# Altium schematic symbol library Intelliclone.SchLib: 488 symbols (part 5 of 6)
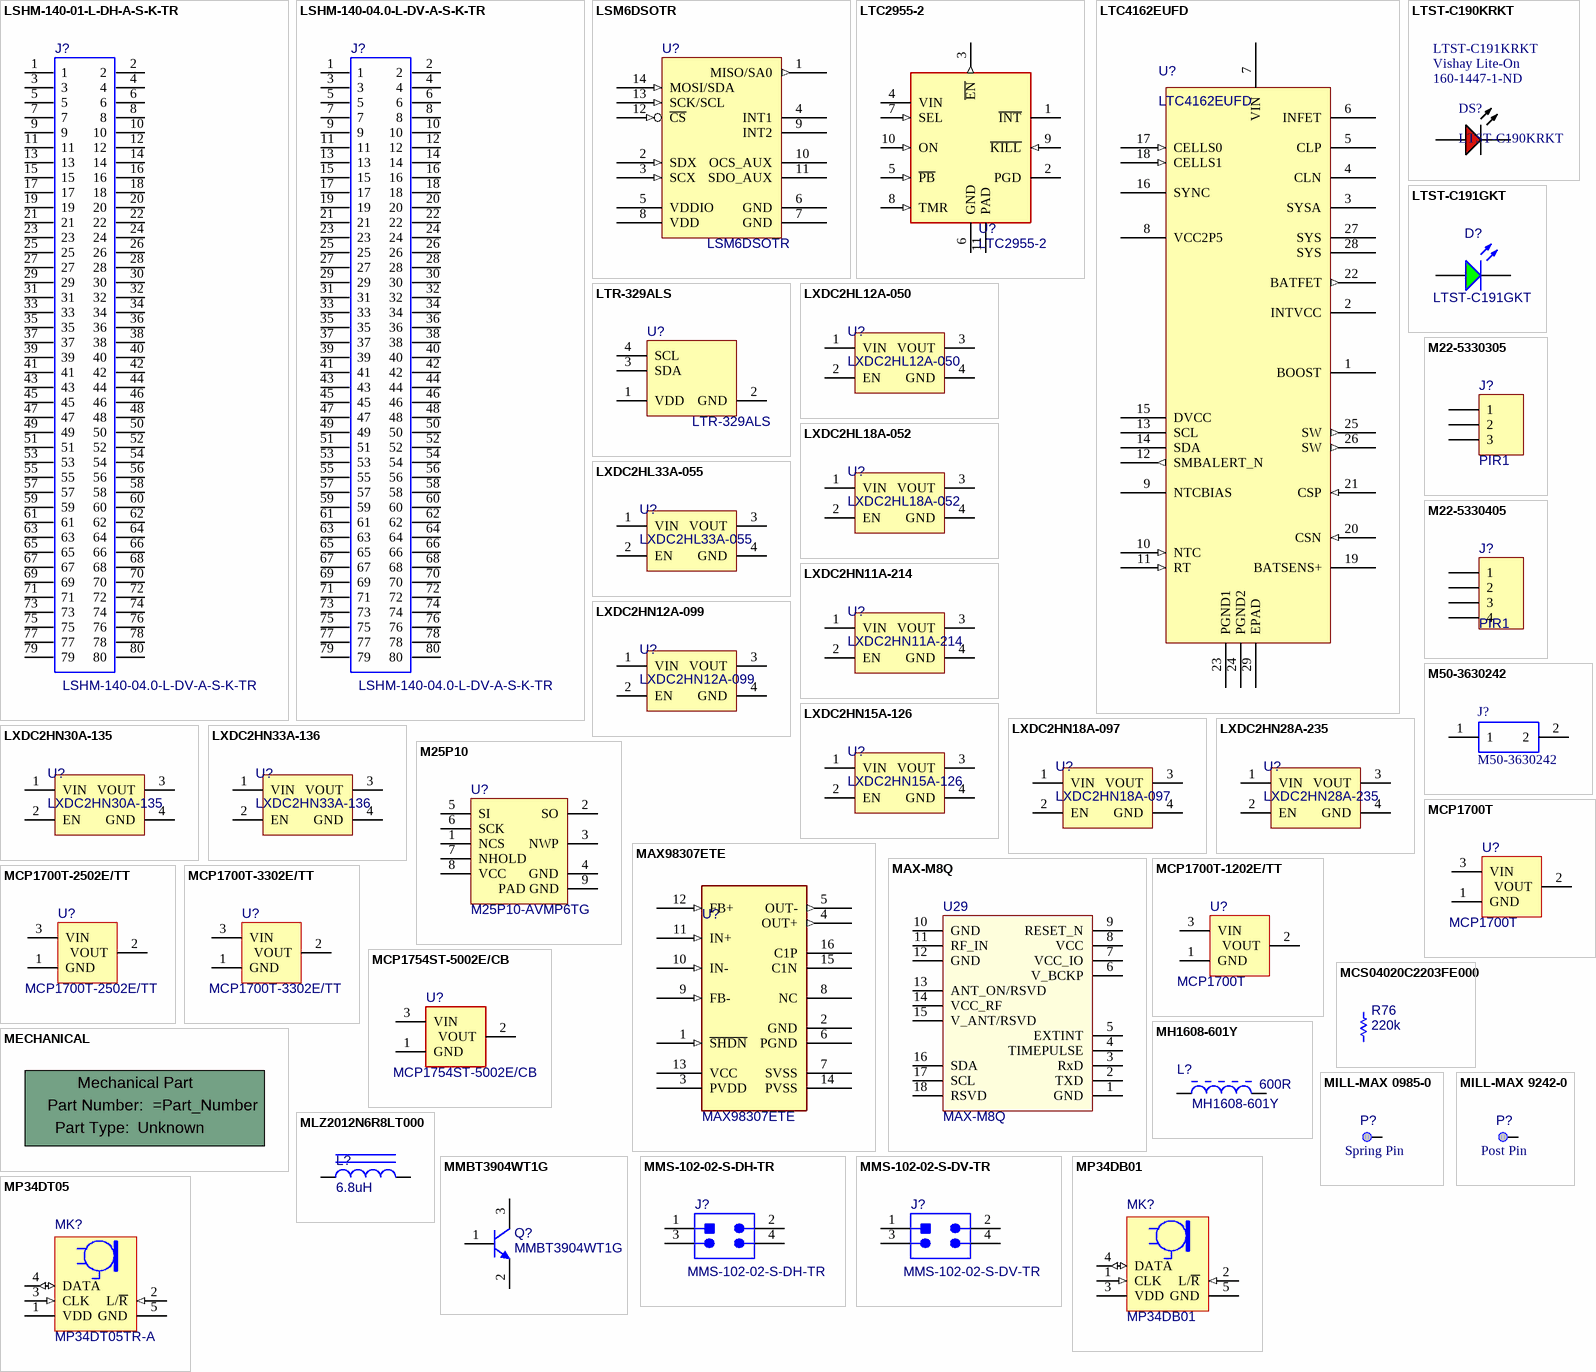
[diagram p25: symbols LSHM-140-01-L-DH-A-S-K-TR to MP34DT05]

## MMBT3904WT1G
designator Q?
TRANS NPN 40V 0.2A SOT323; Manufacturer 1: ON Semiconductor / Fairchild; CMT Part Number: 100184; Max Collector Current: 200mA; ComponentLink3URL: http://www.fairchildsemi.com/dwg/MA/MA03D.pdf; ComponentLink1URL: https://www.fairchildsemi.com/; ComponentLink1Description: Manufacturer URL; ComponentLink2URL: https://www.fairchildsemi.com/datasheets/MM/MMBT3904.pdf; ComponentLink3Description: Package Specification; ComponentLink2Description: Datasheet; Case/Package: SOT-23; Manufacturer Part Number 1: MMBT3904WT1G; Max Breakdown Voltage: 40V; Supplier 1: Digi-Key; Supplier Part Number 1: MMBT3904WT1GOSTR-ND; Supplier 2: Mouser; Supplier Part Number 2: 863-MMBT3904WT1G; Value: MMBT3904WT1G
footprint FAIR-SOT23-3_V (SOT23, 3-Leads, Body 3.12x1.5mm, Pitch 0.95mm)
footprint SOT-323FL (SOT23, 3-Leads, Body 2.00x2.10mm, Pitch 0.65mm, IPC Medium Density)
pins: 1 B, 2 E, 3 C

## MMS-102-02-S-DH-TR
designator J?
CONN HEADER 4POS DL UNSHRD SMD; Manufacturer 1: Samtec; Manufacturer Part Number 1: MMS-102-02-S-DH-TR; Value: MMS-102-02-S-DH-TR; Part Type: Connector; Supplier 1: Octopart; Supplier Part Number 1: Avnet - MMS-102-02-S-DH
footprint HDR2X5 (Connector; Header; 5x2 Position)
signal-integrity model Connector
footprint MMS-115-02-XXX-DH
pins: 1, 2, 3, 4

## MMS-102-02-S-DV-TR
designator J?
CONN HEADER 4POS DL UNSHRD SMD; Manufacturer 1: Samtec; Manufacturer Part Number 1: MMS-102-02-S-DV-TR; Value: MMS-102-02-S-DV-TR; Part Type: Connector
footprint HDR2X5 (Connector; Header; 5x2 Position)
signal-integrity model Connector
footprint MMS-102-02-X-DV (Samtec MMS-102-02-X-DV)
pins: 1, 2, 3, 4

## MP34DB01
designator MK?
MIC SISONIC MINI TOP RF; Manufacturer 1: ST Microelectronics; Part Type: Microphone; Manufacturer Part Number 1: MP34DB01; Supplier 1: Digi-Key; Supplier Part Number 1: 497-11241-1-ND; Value: MP34DB01
footprint MP34DB01 (DFN, 4-Leads, Body 4.00x3.00mm, Pitch 0.70mm, IPC Medium Density)
pins: 1 CLK (in), 2 L/~{R} (in), 3 VDD (power), 4 DATA (io), 5 GND (power)

## MP34DT05
designator MK?, comment MP34DT05TR-A
MIC SISONIC MINI TOP RF; Manufacturer 1: ST Microelectronics; CMT Part Number: 100254; Part Type: Microphone; Manufacturer Part Number 1: MP34DT05TR-A; Supplier 1: Digi-Key; Supplier Part Number 1: 497-17809-1-ND; Supplier 2: Mouser; Supplier Part Number 2: 511-MP34DT05TR-A; Value: MP34DT05TR-A
footprint MP34T05A
pins: 1 VDD (power), 2 L/~{R} (in), 3 CLK (in), 4 DATA (io), 5 GND (power)

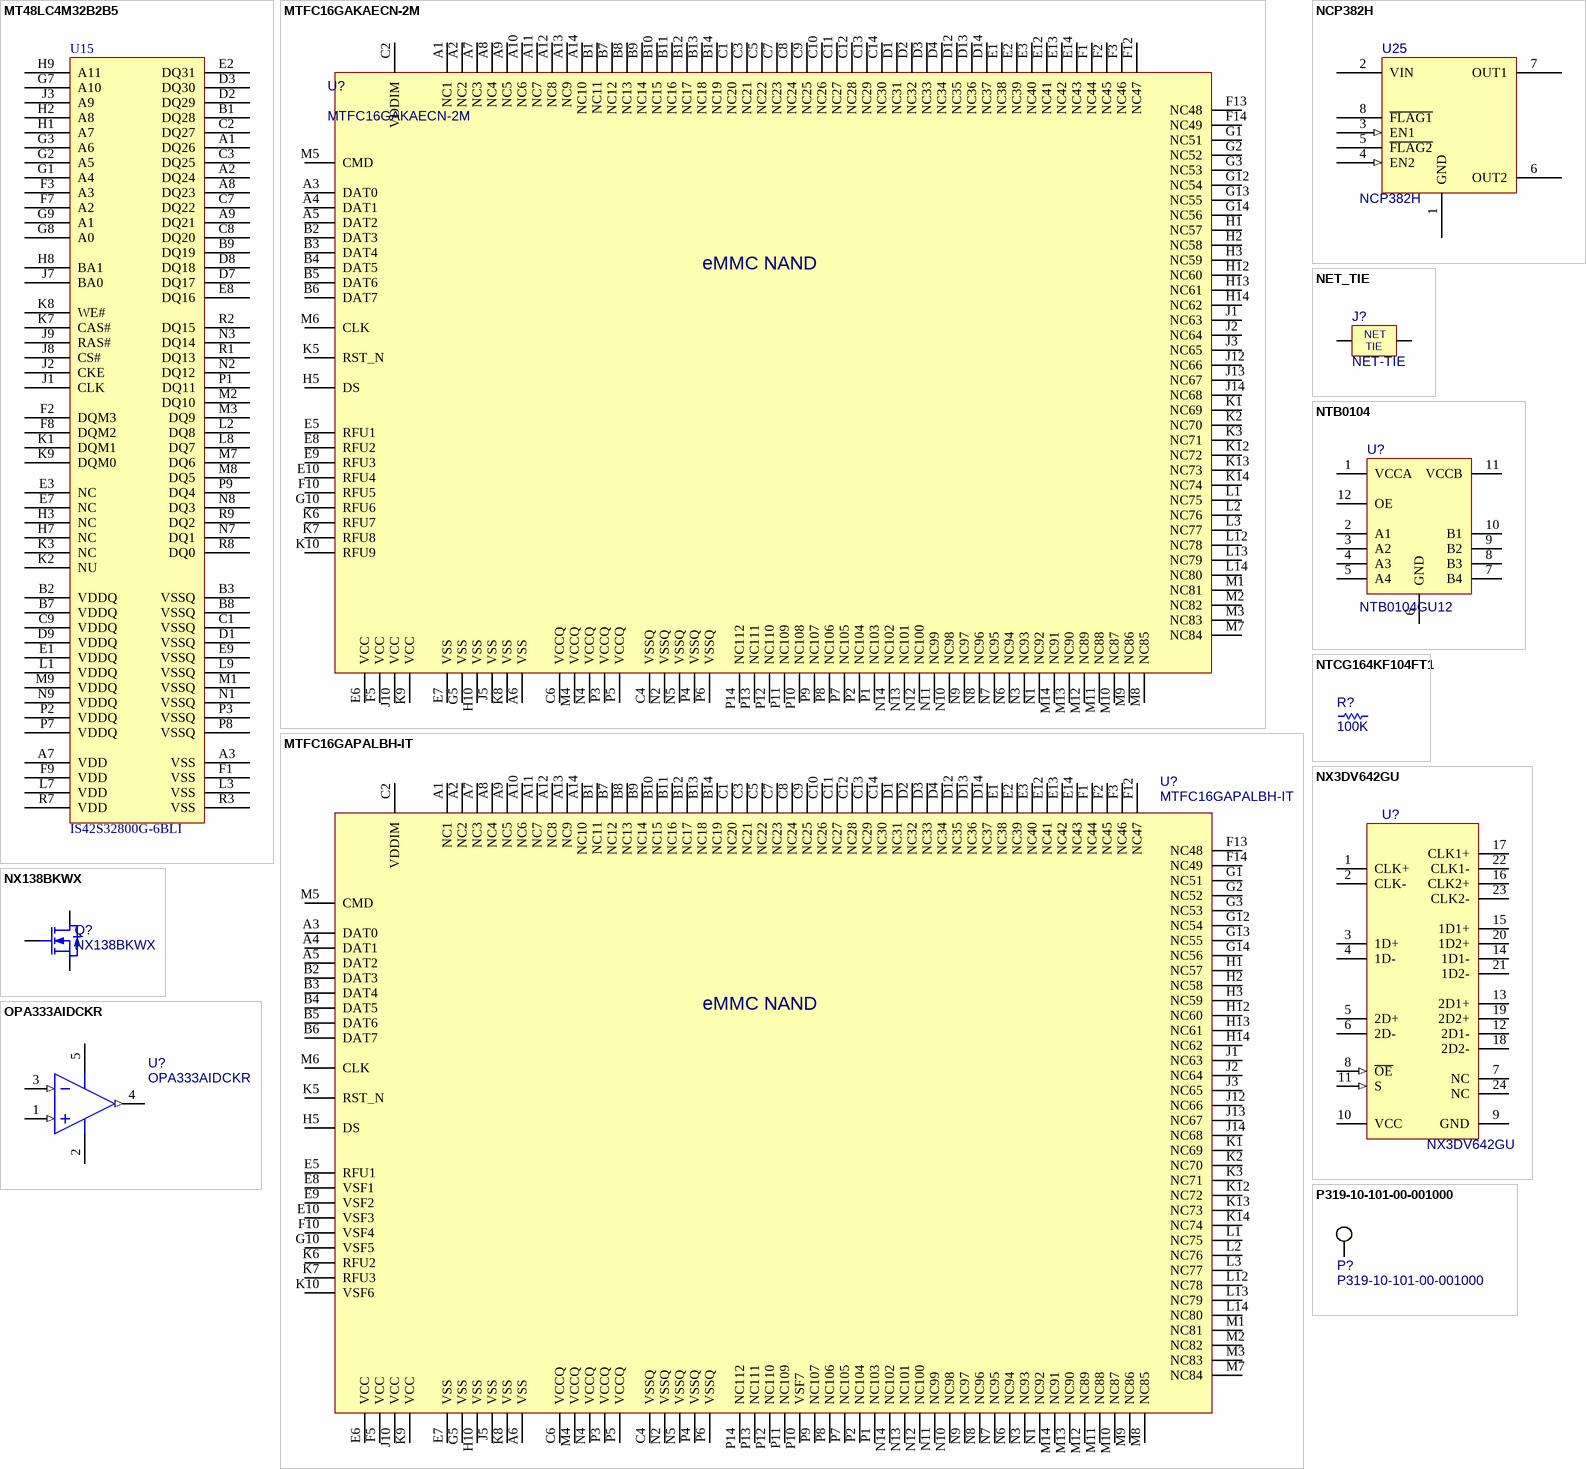
[diagram p13: symbols MT48LC4M32B2B5 to P319-10-101-00-001000]

## MT48LC4M32B2B5
designator U15, comment IS42S32800G-6BLI
IC DRAM 256M PARALLEL 90TFBGA
footprint FBGA90_0R8_8X13 (Footprint not found)
pins: A1 DQ26, A2 DQ24, A3 VSS, A7 VDD, A8 DQ23, A9 DQ21, B1 DQ28, B2 VDDQ, B3 VSSQ, B7 VDDQ, B8 VSSQ, B9 DQ19, C1 VSSQ, C2 DQ27, C3 DQ25, C7 DQ22, C8 DQ20, C9 VDDQ, D1 VSSQ, D2 DQ29, D3 DQ30, D7 DQ17, D8 DQ18, D9 VDDQ, E1 VDDQ, E2 DQ31, E3 NC, E7 NC, E8 DQ16, E9 VSSQ, F1 VSS, F2 DQM3, F3 A3, F7 A2, F8 DQM2, F9 VDD, G1 A4, G2 A5, G3 A6, G7 A10, G8 A0, G9 A1, H1 A7, H2 A8, H3 NC, H7 NC, H8 BA1, H9 A11, J1 CLK, J2 CKE, J3 A9, J7 BA0, J8 CS#, J9 RAS#, K1 DQM1, K2 NU, K3 NC, K7 CAS#, K8 WE#, K9 DQM0, L1 VDDQ, L2 DQ8, L3 VSS, L7 VDD, L8 DQ7, L9 VSSQ, M1 VSSQ, M2 DQ10, M3 DQ9, M7 DQ6, M8 DQ5, M9 VDDQ, N1 VSSQ, N2 DQ12, N3 DQ14, N7 DQ1, N8 DQ3, N9 VDDQ, P1 DQ11, P2 VDDQ, P3 VSSQ, P7 VDDQ, P8 VSSQ, P9 DQ4, R1 DQ13, R2 DQ15, R3 VSS, R7 VDD, R8 DQ0, R9 DQ2

## MTFC16GAKAECN-2M
designator U?
IC FLASH 128GBIT 153FBGA; Manufacturer 1: Micron; Manufacturer Part Number 1: MTFC16GAKAECN-2M WT; CMT Part Number: 100208; Value: MTFC16GAKAECN-2M; Supplier 1: Arrow; Supplier Part Number 1: MTFC16GAKAECN-2M WT
footprint BGA153C50P14X14_1150X1300X90 (BGA, 153-Leads, Body 11.50x13.00mmx0.90mm, Pitch 0.50mm)
pins: A1 NC1, A2 NC2, A3 DAT0, A4 DAT1, A5 DAT2, A6 VSS (power), A7 NC3, A8 NC4, A9 NC5, A10 NC6, A11 NC7, A12 NC8, A13 NC9, A14 NC10, B1 NC11, B2 DAT3, B3 DAT4, B4 DAT5, B5 DAT6, B6 DAT7, B7 NC12, B8 NC13, B9 NC14, B10 NC15, B11 NC16, B12 NC17, B13 NC18, B14 NC19, C1 NC20, C2 VDDIM, C3 NC21, C4 VSSQ (power), C5 NC22, C6 VCCQ (power), C7 NC23, C8 NC24, C9 NC25, C10 NC26, C11 NC27, C12 NC28, C13 NC29, C14 NC30, D1 NC31, D2 NC32, D3 NC33, D4 NC34, D12 NC35, D13 NC36, D14 NC37, E1 NC38, E2 NC39, E3 NC40, E5 RFU1, E6 VCC (power), E7 VSS (power), E8 RFU2, E9 RFU3, E10 RFU4, E12 NC41, E13 NC42, E14 NC43, F1 NC44, F2 NC45, F3 NC46, F5 VCC (power), F10 RFU5, F12 NC47, F13 NC48, F14 NC49, G1 NC51, G2 NC52, G3 NC53, G5 VSS (power), G10 RFU6, G12 NC54, G13 NC55, G14 NC56, H1 NC57, H2 NC58, H3 NC59, H5 DS, H10 VSS (power), H12 NC60, H13 NC61, H14 NC62, J1 NC63, J2 NC64, J3 NC65, J5 VSS (power), J10 VCC (power), J12 NC66, J13 NC67, J14 NC68, K1 NC69, K2 NC70, K3 NC71, K5 RST_N, K6 RFU7, K7 RFU8, K8 VSS (power), K9 VCC (power), K10 RFU9, K12 NC72, K13 NC73, K14 NC74, L1 NC75, L2 NC76, L3 NC77, L12 NC78, L13 NC79, L14 NC80, M1 NC81, M2 NC82, M3 NC83, M4 VCCQ (power), M5 CMD, M6 CLK, M7 NC84, M8 NC85, M9 NC86, M10 NC87, M11 NC88, M12 NC89, M13 NC90, M14 NC91, N1 NC92, N2 VSSQ (power), N3 NC93, N4 VCCQ (power), N5 VSSQ (power), N6 NC94, N7 NC95, N8 NC96, N9 NC97, N10 NC98, N11 NC99, N12 NC100, N13 NC101, N14 NC102, P1 NC103, P2 NC104, P3 VCCQ (power), P4 VSSQ (power), P5 VCCQ (power), P6 VSSQ (power), P7 NC105, P8 NC106, P9 NC107, P10 NC108, P11 NC109, P12 NC110, P13 NC111, P14 NC112
text: eMMC NAND

## MTFC16GAPALBH-IT
designator U?
IC FLASH 128GBIT 153FBGA; Manufacturer 1: Micron; CMT Part Number: 100208; Manufacturer Part Number 1: MTFC16GAPALBH-IT; Value: MTFC16GAPALBH-IT; Supplier 1: Avnet; Supplier Part Number 1: MTFC16GAPALBH-IT
footprint BGA153C50P14X14_1150X1300X90 (BGA, 153-Leads, Body 11.50x13.00mmx0.90mm, Pitch 0.50mm)
pins: A1 NC1, A2 NC2, A3 DAT0, A4 DAT1, A5 DAT2, A6 VSS (power), A7 NC3, A8 NC4, A9 NC5, A10 NC6, A11 NC7, A12 NC8, A13 NC9, A14 NC10, B1 NC11, B2 DAT3, B3 DAT4, B4 DAT5, B5 DAT6, B6 DAT7, B7 NC12, B8 NC13, B9 NC14, B10 NC15, B11 NC16, B12 NC17, B13 NC18, B14 NC19, C1 NC20, C2 VDDIM, C3 NC21, C4 VSSQ (power), C5 NC22, C6 VCCQ (power), C7 NC23, C8 NC24, C9 NC25, C10 NC26, C11 NC27, C12 NC28, C13 NC29, C14 NC30, D1 NC31, D2 NC32, D3 NC33, D4 NC34, D12 NC35, D13 NC36, D14 NC37, E1 NC38, E2 NC39, E3 NC40, E5 RFU1, E6 VCC (power), E7 VSS (power), E8 VSF1, E9 VSF2, E10 VSF3, E12 NC41, E13 NC42, E14 NC43, F1 NC44, F2 NC45, F3 NC46, F5 VCC (power), F10 VSF4, F12 NC47, F13 NC48, F14 NC49, G1 NC51, G2 NC52, G3 NC53, G5 VSS (power), G10 VSF5, G12 NC54, G13 NC55, G14 NC56, H1 NC57, H2 NC58, H3 NC59, H5 DS, H10 VSS (power), H12 NC60, H13 NC61, H14 NC62, J1 NC63, J2 NC64, J3 NC65, J5 VSS (power), J10 VCC (power), J12 NC66, J13 NC67, J14 NC68, K1 NC69, K2 NC70, K3 NC71, K5 RST_N, K6 RFU2, K7 RFU3, K8 VSS (power), K9 VCC (power), K10 VSF6, K12 NC72, K13 NC73, K14 NC74, L1 NC75, L2 NC76, L3 NC77, L12 NC78, L13 NC79, L14 NC80, M1 NC81, M2 NC82, M3 NC83, M4 VCCQ (power), M5 CMD, M6 CLK, M7 NC84, M8 NC85, M9 NC86, M10 NC87, M11 NC88, M12 NC89, M13 NC90, M14 NC91, N1 NC92, N2 VSSQ (power), N3 NC93, N4 VCCQ (power), N5 VSSQ (power), N6 NC94, N7 NC95, N8 NC96, N9 NC97, N10 NC98, N11 NC99, N12 NC100, N13 NC101, N14 NC102, P1 NC103, P2 NC104, P3 VCCQ (power), P4 VSSQ (power), P5 VCCQ (power), P6 VSSQ (power), P7 NC105, P8 NC106, P9 NC107, P10 VSF7, P11 NC109, P12 NC110, P13 NC111, P14 NC112
text: eMMC NAND

## NCP382H
designator U25
IC PWR DISTRIB SWITCH 2CH 8SOIC; Manufacturer 1: ON Semiconductor; Manufacturer Part Number 1: NCP382HD10AAR2G; CMT Part Number: 100222; Max Input Voltage: 5.5V; Min Input Voltage: 2.5V; Supplier 1: Digi-Key; Supplier Part Number 1: NCP382HD10AAR2GOSDKR-ND; Value: NCP382H
footprint SOIC127P620X175-8N (SOIC, 8-Leads, Body 5.00x4.00mm, Pitch 1.27mm, IPC Medium Density)
pins: 1 GND (power), 2 VIN (power), 3 EN1 (in), 4 EN2 (in), 5 ~{FLAG2} (oc), 6 OUT2 (power), 7 OUT1 (power), 8 ~{FLAG1} (oc)

## NET_TIE
designator J?, comment NET-TIE  (net tie, no BOM)
NET TIE LARGE; Value: NET-TIE
footprint NET-TIE-0805 (0805 size net tie)
signal-integrity model Connector
pins: 1, 2
text: NET; TIE

## NTB0104
designator U?, comment NTB0104GU12
IC 4-BIT TRNSLTR 15KV ESD 12XQFN; Manufacturer 1: NXP; Manufacturer Part Number 1: NTB0104GU12,115; Value: NTB0104GU12; Supplier 1: Digi-Key; Supplier Part Number 1: 568-5204-1-ND
footprint QFN40P170X200X50-12N (QFN, 12-Leads, Body 1.70x2.00mm, Pitch 0.40mm, IPC Medium Density)
pins: 1 VCCA, 2 A1, 3 A2, 4 A3, 5 A4, 6 GND, 7 B4, 8 B3, 9 B2, 10 B1, 11 VCCB, 12 OE

## NTCG164KF104FT1
designator R?, comment 100K
THERMISTOR NTC 100K OHM 1% 0603; Manufacturer 1: TDK; Manufacturer Part Number 1: NTCG164KF104FT1; Supplier 1: Digi-Key; Supplier Part Number 1: 445-2556-1-ND; Supplier 2: Mouser; Supplier Part Number 2: N/A; Value: 100K
simulation model RESISTOR (Resistor)
signal-integrity model Res
footprint 0603 (Standard 0603 Component Footprint)
pins: 1, 2

## NX3DV642GU
designator U?
IC SWITCH TPDT DIFF XQFN24; Manufacturer 1: NXP; Value: NX3DV642GU; Manufacturer Part Number 1: NX3DV642GU; Supplier 1: Digi-Key; Supplier Part Number 1: 568-12389-1-ND
pins: 1 CLK+, 2 CLK-, 3 1D+, 4 1D-, 5 2D+, 6 2D-, 7 NC, 8 ~{OE} (in), 9 GND (power), 10 VCC (power), 11 S (in), 12 2D1-, 13 2D1+, 14 1D1-, 15 1D1+, 16 CLK2+, 17 CLK1+, 18 2D2-, 19 2D2+, 20 1D2+, 21 1D2-, 22 CLK1-, 23 CLK2-, 24 NC

## NX138BKWX
designator Q?
MOSFET N-CH 20V .27A SC70; Manufacturer 1: Nexperia; Manufacturer Part Number 1: NX138BKWX; Value: NX138BKWX; Supplier 1: Digi-Key; Supplier Part Number 1: 1727-2738-1-ND
footprint SOT65P210X110-3N (SOT23, 3-Leads, Body 2.00x2.10mm, Pitch 0.65mm, IPC Medium Density)
pins: 1 G, 2 S, 3 D

## OPA333AIDCKR
designator U?
IC OPAMP CHOPPER 350KHZ SC70-5; Manufacturer 1: Texas Instruments; Value: OPA333AIDCKR; Manufacturer Part Number 1: OPA333AIDCKR; Supplier 1: Digi-Key; Supplier Part Number 1: 296-19547-1-ND; Supplier 2: Mouser; Supplier Part Number 2: 595-OPA333AIDCKR
footprint TI-DCK5_V (SOT23, 5-Leads, Body 2x1.25mm, Pitch 0.65mm)
pins: 1 IN+ (in), 2 V- (power), 3 IN- (in), 4 OUT (out), 5 V+ (power)

## P319-10-101-00-001000
designator P?
CONN SOCKET 1P .100 SPRING LOADED; Manufacturer 1: Mill-Max; Manufacturer Part Number 1: P319-10-101-00-001000; Supplier 1: Heilind; Supplier Part Number 1: 319-10-101-00-001-000; Value: P319-10-101-00-001000
footprint TP/SMALL
pins: 1

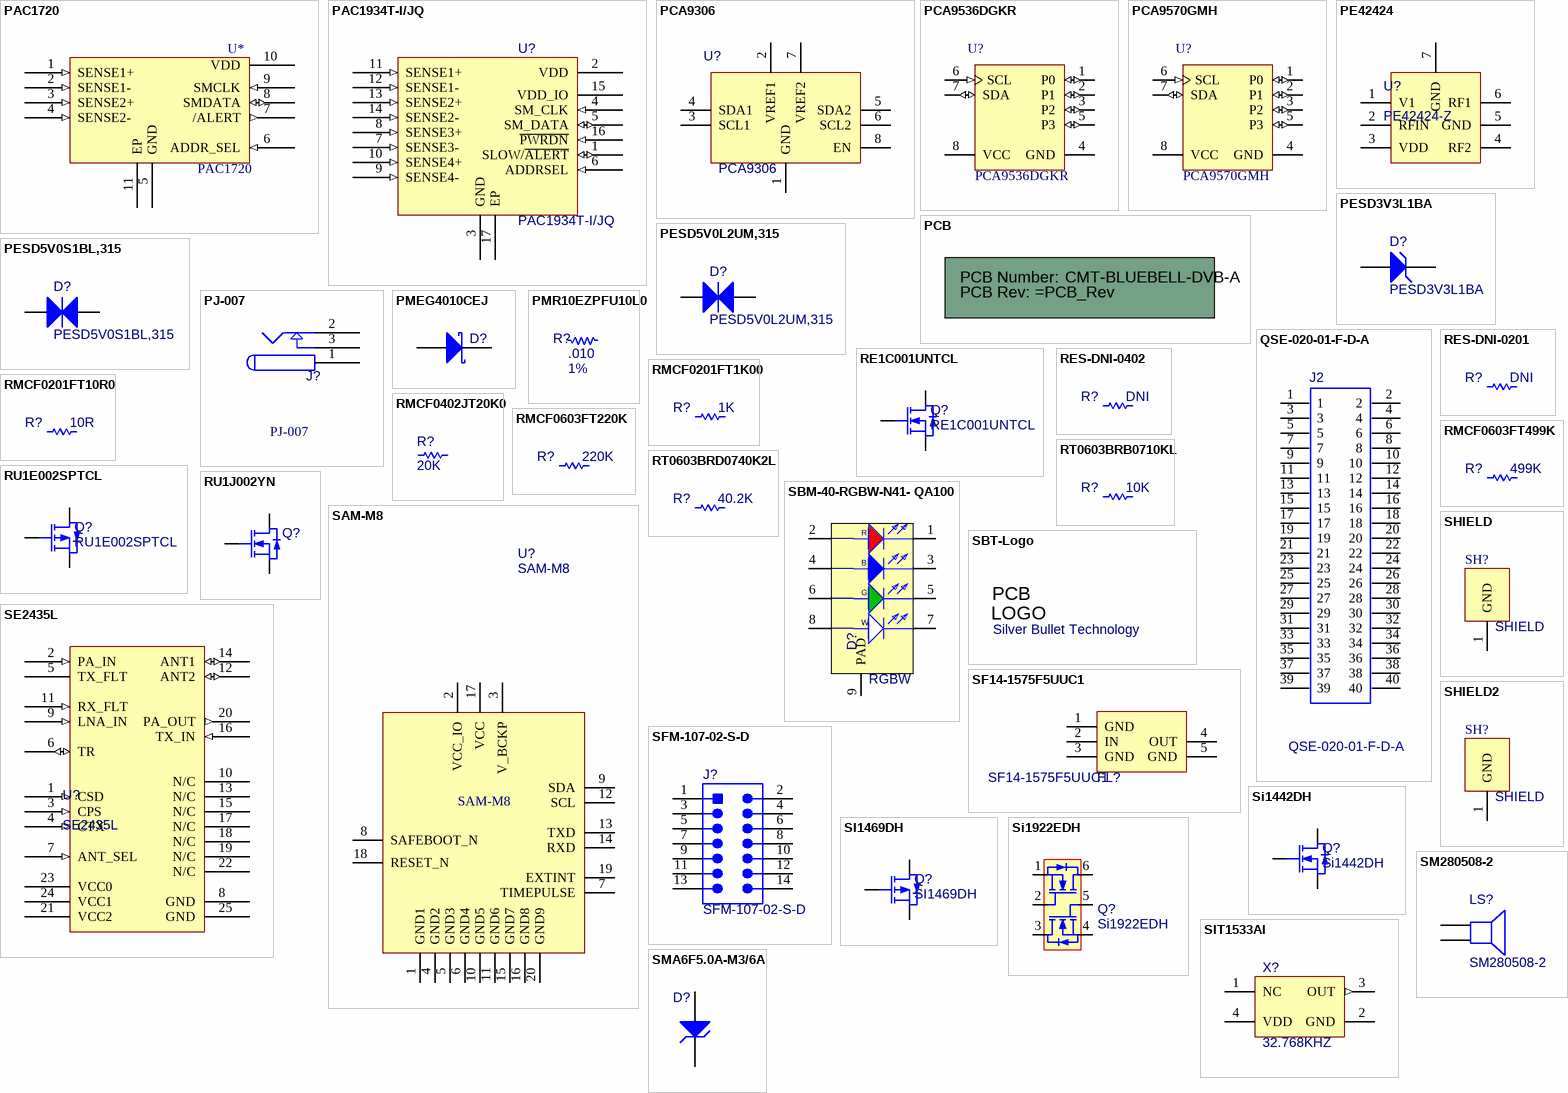
[diagram p14: symbols PAC1720 to SMA6F5.0A-M3/6A]

## PAC1720
designator U*
IC CURRENT SENSE MON DUAL 10VDFN; Value: PAC1720
footprint VDFN50P300X90_HS-11N (VDFN, 10-Leads, Body 3.00x3.00mm, Pitch 0.50mm, Thermal Pad 2.30x1.60mm, IPC Medium Density)
pins: 1 SENSE1+ (in), 2 SENSE1- (in), 3 SENSE2+ (in), 4 SENSE2- (in), 5 GND, 6 ADDR_SEL (in), 7 /ALERT (out), 8 SMDATA (io), 9 SMCLK (in), 10 VDD (power), 11 EP

## PAC1934T-I/JQ
designator U?
IC QUAD HIGH-SIDE CURRENT SENSOR; Manufacturer 1: Microchip; CMT Part Number: 100224; Value: PAC1934T-I/JQ; Manufacturer Part Number 1: PAC1934T-I/JQ; Supplier 1: Digi-Key; Supplier Part Number 1: PAC1934T-I/JQCT-ND
footprint QFN65P400X400X55_HS-17N (QFN, 16-Leads, Body 4.00x4.00mm, Pitch 0.65mm, Thermal Pad 2.70x2.70mm, IPC Medium Density)
pins: 1 SLOW/~{ALERT} (io), 2 VDD (power), 3 GND, 4 SM_CLK (in), 5 SM_DATA (io), 6 ADDRSEL (in), 7 SENSE3- (in), 8 SENSE3+ (in), 9 SENSE4- (in), 10 SENSE4+ (in), 11 SENSE1+ (in), 12 SENSE1- (in), 13 SENSE2+ (in), 14 SENSE2- (in), 15 VDD_IO (power), 16 ~{PWRDN} (in), 17 EP

## PCA9306
designator U?
IC V-LEVL XLATR I2C/SMBUS 8X2SON; Manufacturer 1: Texas Instruments; Manufacturer Part Number 1: PCA9306DQER; Value: PCA9306; Supplier 1: Digi-Key; Supplier Part Number 1: 296-27957-1-ND
footprint SON35P100X40-8N (SON, 8-Leads, Body 1.40x1.00mm, Pitch 0.35mm, IPC Medium Density)
pins: 1 GND, 2 VREF1, 3 SCL1, 4 SDA1, 5 SDA2, 6 SCL2, 7 VREF2, 8 EN

## PCA9536DGKR
designator U?
IC I/O EXPANDER I2C 4B 8VSSOP; Manufacturer: Texas Instruments; ComponentLink2Description: Package Specification; ComponentLink1Description: Datasheet; ComponentLink1URL: http://www.ti.com/general/docs/lit/getliterature.tsp?genericPartNumber=PCA9536&fileType=pdf; ComponentLink2URL: http://www.ti.com/litv/pdf/msoi002j; Parameter 1: *; Supplier 1: Digi-Key; Manufacturer Part Number 1: PCA9536DGKR; Supplier Part Number 1: 296-20952-2-ND
footprint DGK0008A_M (TSOP, 8-Leads, Body 3.1x3.1mm, Pitch 0.65mm, IPC Low Density)
footprint DGK0008A_L (TSOP, 8-Leads, Body 3.1x3.1mm, Pitch 0.65mm, IPC High Density)
footprint DGK0008A_N (TSOP, 8-Leads, Body 3.1x3.1mm, Pitch 0.65mm, IPC Medium Density)
pins: 1 P0 (io) "P-port input/output. Push-pull design structure.", 2 P1 (io) "P-port input/output. Push-pull design structure.", 3 P2 (io) "P-port input/output. Push-pull design structure.", 4 GND (power) "Ground", 5 P3 (io) "P-port input/output. Push-pull design structure.", 6 SCL (in) "Serial clock bus. Connect to VCC through a pullup resistor.", 7 SDA (io) "Serial data bus. Connect to VCC through a pullup resistor.", 8 VCC (power) "Supply voltage"

## PCA9570GMH
designator U?
IC GPIO EXPANDER 8XQFN; Manufacturer 1: NXP USA Inc.; ComponentLink2Description: Package Specification; ComponentLink1Description: Datasheet; ComponentLink1URL: http://www.ti.com/general/docs/lit/getliterature.tsp?genericPartNumber=PCA9536&fileType=pdf; ComponentLink2URL: http://www.ti.com/litv/pdf/msoi002j; Supplier 1: Digi-Key; Manufacturer Part Number 1: PCA9570GMH; Supplier Part Number 1: 568-10952-1-ND
footprint PCA9570GMH
pins: 1 P0 (io) "P-port input/output. Push-pull design structure.", 2 P1 (io) "P-port input/output. Push-pull design structure.", 3 P2 (io) "P-port input/output. Push-pull design structure.", 4 GND (power) "Ground", 5 P3 (io) "P-port input/output. Push-pull design structure.", 6 SCL (in) "Serial clock bus. Connect to VCC through a pullup resistor.", 7 SDA (io) "Serial data bus. Connect to VCC through a pullup resistor.", 8 VCC (power) "Supply voltage"

## PCB
designator !PCB1, comment Printed Circuit Board  (value not drawn)  (graphical)
Manufacturer: Any; PartNumber: CMT-BLUEBELL-DVB-A; CompType: PCB; RoHS: O
1 alternate drawing of the same symbol
text: PCB Number:; PCB Rev:

## PE42424
designator U?, comment PE42424-Z
IC RF SWITCH SPDT 50OHM 6DFN; Manufacturer 1: Peregrine; Manufacturer Part Number 1: PE42424A-Z; Value: PE42424-Z; Supplier 1: Digi-Key; Supplier Part Number 1: 1046-1119-1-ND
footprint SON50P150X55_HS-7N (SON, 6-Leads, Body 1.50x1.50mm, Pitch 0.50mm, Thermal Pad 1.20x0.65mm, IPC Medium Density)
pins: 1 V1, 2 RFIN, 3 VDD, 4 RF2, 5 GND, 6 RF1, 7 GND

## PESD3V3L1BA
designator D?
DIODE ESD 1LINE 5V SOT23; Manufacturer 1: NXP; Value: 3.3V; Manufacturer Part Number 1: PESD3V3L1BA; Supplier 1: Digi-Key; Supplier Part Number 1: 568-4040-1-ND; Supplier 2: Mouser; Supplier Part Number 2: 771-PESD3V3L1BA-T/R
simulation model ZENER (Diode)
signal-integrity model D Zener
footprint SOT23-3N (SOT23, 3-Leads, Body 2.9x1.3mm, Pitch 0.95mm, Lead Span 2.5mm, IPC Medium Density)
pins: 1 A, 2 K

## PESD5V0L2UM,315
designator D?
TVS DIODE 5VWM SOD883; Manufacturer 1: NXP; Value: 5.0V; Manufacturer Part Number 1: PESD5V0L2UM,315; Supplier 1: Digi-Key; Supplier Part Number 1: 568-10742-1-ND; Supplier 2: Mouser; Supplier Part Number 2: 771-PESD5V0L2UM315
simulation model ZENER (Diode)
signal-integrity model D Zener
footprint SOD883
pins: 1 A, 2 K

## PESD5V0S1BL,315
designator D?
TVS DIODE 5VWM 14VC SOD882; Manufacturer 1: NXP; Value: 5.0V; Manufacturer Part Number 1: PESD5V0S1BL,315; Supplier 1: Digi-Key; Supplier Part Number 1: 568-4801-1-ND; Supplier 2: Mouser; Supplier Part Number 2: 771-PESD5V0S1BL315
simulation model ZENER (Diode)
signal-integrity model D Zener
footprint SOD883
pins: 1 A, 2 K

## PJ-007
designator J?
CONN PWR JACK RT ANG 1.3MM I.D.; Manufacturer 1: CUI Stack; Manufacturer Part Number 1: PJ-007; Supplier 1: Digi-Key; Supplier Part Number 1: CP-2519-ND; Value: PJ-007
footprint PJ-007 (Footprint not found)
pins: 1, 2, 3

## PMEG4010CEJ
designator D?, comment PMEG4010CEJ,115  (value not drawn)
DIODE SCHOTTKY 40V 1A SOD323F; Manufacturer 1: NXP; CMT Part Number: 100165; Manufacturer Part Number 1: PMEG4010CEJ,115; Value: PMEG4010CEJ,115; Supplier 1: Digi-Key; Supplier Part Number 1: 568-4135-1-ND
simulation model SKYDIODE (Diode)
signal-integrity model D Schottky
footprint SOD-323 (NXP recommended land pattern)
pins: 1 K, 2 A

## PMR10EZPFU10L0
designator R?, comment Tolerance: 1%  (hidden comment: .010)
RES SMD 0.01 OHM 1% 1/2W 0805; Manufacturer Part Number 1: PMR10EZPFU10L0; Manufacturer 1: Rohm; Part Type: Chip Resistor; Power: 1/2W; Supplier 1: Digi-Key; Supplier Part Number 1: RHM.010AJCT-ND; Value: .010
footprint CR0402
footprint RESC1005X40N (Resistor, Chip 0402; 1.00mm L x 0.50mm W, 0.40mm H, Nominal Material Condition)
footprint RESC2113X05N (Chip Resistor, 2-Leads, Body 2.10x1.35mm, IPC Medium Density)
pins: 1, 2

## QSE-020-01-F-D-A
designator J2
0.8MM TERMINAL STRIP ASSEMBLY 40PINS; Manufacturer 1: Samtec; Value: QSE-020-01-F-D-A; Manufacturer Part Number 1: QSE-020-01-F-D-A
footprint ST4-20-1.00-X-D (Samtec ST4 Series Connector 20 pins per row)
pins: 1, 2, 3, 4, 5, 6, 7, 8, 9, 10, 11, 12, 13, 14, 15, 16, 17, 18, 19, 20, 21, 22, 23, 24, 25, 26, 27, 28, 29, 30, 31, 32, 33, 34, 35, 36, 37, 38, 39, 40

## RE1C001UNTCL
designator Q?
MOSFET N-CH 20V 0.1A EMT3FM; Manufacturer 1: Rohm; Manufacturer Part Number 1: RE1C001UNTCL; Value: RE1C001UNTCL; Supplier 1: Digi-Key; Supplier Part Number 1: RE1C001UNTCLCT-ND
footprint SOTFL50P160X85-3N (SOTFL, 3-Leads, Body 1.60x1.60mm, Pitch 0.50mm, IPC Medium Density)
pins: 1 G, 2 S, 3 D

## RES-DNI-0201
designator R?, comment DNI
RES NOT INSTALLED 0201; Manufacturer 1: NONE; Manufacturer Part Number 1: NOT INSTALLED; Value: DNI
footprint 0201 (0201 Standard Footprint)
pins: 1, 2

## RES-DNI-0402
designator R?, comment DNI
RES NOT INSTALLED 0402; Manufacturer 1: NONE; Manufacturer Part Number 1: NOT INSTALLED; Value: DNI
footprint 0402 (0402 Standard Footprint)
pins: 1, 2

## RMCF0201FT1K00
designator R?, comment 1K
RES SMD 1K OHM 1% 1/20W 0201; Manufacturer Part Number 1: RMCF0201FT1K00; Manufacturer 1: Stackpole Electronics; CMT Part Number: 100232; Supplier 1: Digi-Key; Supplier Part Number 1: RMCF0201FT1K00CT-ND; Tolerance: 1%; Value: 1K
footprint 0201 (0201 Standard Footprint)
pins: 1, 2

## RMCF0201FT10R0
designator R?, comment 10R
RES SMD 10 OHM 5% 1/20W 0201; Manufacturer Part Number 1: RMCF0201FT10R0; Manufacturer 1: Stackpole Electronics Inc; CMT Part Number: 100265; Supplier 1: Digi-Key; Supplier Part Number 1: RMCF0201FT10R0CT-ND; Value: 10R
footprint 0201 (0201 Standard Footprint)
pins: 1, 2

## RMCF0402JT20K0
designator R?, comment 20K
RES 20K OHM 1/16W 5% 0402 SMD; Manufacturer 1: Stackpole Electronics Inc; Manufacturer Part Number 1: RMCF0402JT20K0; CMT Part Number: 100196; Supplier 1: Digi-Key; Supplier Part Number 1: RMCF0402JT20K0CT-ND; Value: 20K
footprint 0402 Resistor
footprint RESC0603N (Chip Resistor, Body 0.6x0.3mm, IPC Medium Density)
footprint 1005[0402] (Chip Resistor; Body 1.1 x 0.5 mm (LxW typ))
pins: 1, 2

## RMCF0603FT220K
designator R?, comment 220K
RES 220K OHM 1% 1/10W 0603; Manufacturer Part Number 1: RMCF0603FT220K; Manufacturer 1: Stackpole Electronics Inc.; Supplier 1: Digi-Key; Supplier Part Number 1: RMCF0603FT220KCT-ND; Value: 220K
footprint 0603 (Standard 0603 Component Footprint)
pins: 1, 2

## RMCF0603FT499K
designator R?, comment 499K
RES 499K OHM 1% 1/10W 0603; Manufacturer Part Number 1: RMCF0603FT499K; Manufacturer 1: Yageo Stackpole Electronics Inc.; Supplier 1: Digi-Key; Supplier Part Number 1: RMCF0603FT499KCT-ND; Value: 499K
footprint 0603 (Standard 0603 Component Footprint)
pins: 1, 2

## RT0603BRB0710KL
designator R?, comment 10K
RES SMD 10K OHM 0.1% 1/10W 0603; Manufacturer Part Number 1: RT0603BRB0710KL; Manufacturer 1: Yageo; CMT Part Number: 100202; Supplier 1: Digi-Key; Supplier Part Number 1: YAG4438CT-ND; Value: 10K
footprint 0603 (Standard 0603 Component Footprint)
pins: 1, 2

## RT0603BRD0740K2L
designator R?, comment 40.2K
RES SMD 40.2KOHM 0.1% 1/10W 0603; Manufacturer Part Number 1: RT0603BRD0740K2L; Manufacturer 1: Yageo; CMT Part Number: 100201; Supplier 1: Digi-Key; Supplier Part Number 1: YAG1658CT-ND; Value: 40.2K
footprint 0603 (Standard 0603 Component Footprint)
pins: 1, 2

## RU1E002SPTCL
designator Q?
MOSFET P-CH 30V 0.25A UMT3F; Manufacturer 1: Rohm; Manufacturer Part Number 1: RU1E002SPTCL; Value: RU1E002SPTCL; Supplier 1: Digi-Key; Supplier Part Number 1: RU1E002SPTCLCT-ND
simulation model PMOS (MOSFET-P)
footprint SOTFL65P210X105-3N (SOTFL, 3-Leads, Body 2.00x2.10mm, Pitch 0.65mm, IPC Medium Density)
pins: 1 G, 2 S, 3 D

## RU1J002YN
designator Q?, comment RU1J002YNTCL  (value not drawn)
MOSFET N-CH 50V 0.2A UMT3F; CMT Part Number: 100186; Manufacturer 1: Rohm Semiconductor; Value: RU1J002YNTCL; Supplier 1: Digi-Key; Supplier Part Number 1: RU1J002YNTCLCT-ND; Supplier 2: Mouser; Supplier Part Number 2: 755-RU1J002YNTCL; Manufacturer Part Number 1: RU1J002YNTCL
footprint SOT-323FL (SOT23, 3-Leads, Body 2.00x2.10mm, Pitch 0.65mm, IPC Medium Density)
pins: 1 G, 2 S, 3 D

## SAM-M8
designator U?
MODULE GPS UBLOX SAM GNSS; Manufacturer 1: u-blox; Part Description: u-blox SAM GNSS antenna module; Value: SAM-M8; Manufacturer Part Number 1: SAM-M8
footprint SAM-M8 (ublox SAM antenna module)
pins: 1 GND1, 2 VCC_IO, 3 V_BCKP, 4 GND2, 5 GND3, 6 GND4, 7 TIMEPULSE, 8 SAFEBOOT_N, 9 SDA, 10 GND5, 11 GND6, 12 SCL, 13 TXD, 14 RXD, 15 GND7, 16 GND8, 17 VCC, 18 RESET_N, 19 EXTINT, 20 GND9

## SBM-40-RGBW-N41- QA100
designator D?, comment value RGBW  (hidden comment: RGB LED)
LED RED/GREEN/BLUE/WHITE PLCC4 SMD; Part Type: LED; Supplier 1: Mouser; Supplier Part Number 1: 941-V1AFKBCJ1M1F17R4
footprint 4-PLCC (4-PLCC LED component package)
pins: 1 R_C, 2 R_A, 3 B_A, 4 B_A, 5 G_C, 6 G_A, 7 W_C, 8 W_A, 9 PAD
text: R; B; G; W

## SBT-Logo
designator Logo1, comment Silver Bullet Technology  (mechanical)
SBT Corporate Signature; Manufacturer 1: NONE; Value: SBT LOGO; Manufacturer Part Number 1: NONE
footprint TI_Stacked_SolderMask_Medium
footprint TI_Stacked_SolderMask_Medium_Vertical
footprint TI_Stacked_SolderMask_Small
footprint TI_Stacked_SolderMask_Small_Vertical
footprint TI_Stacked_Overlay_Medium
footprint TI_Stacked_Overlay_Medium_Vertical
footprint SBT-Logo (SBT DXF logo)
footprint TI_Stacked_Overlay_Small_Vertical
footprint TI_Horizontal_SolderMask_Small
footprint TI_Horizontal_Overlay_Medium
footprint TI_Horizontal_Overlay_Small
footprint TI_Symbol_SolderMask_Medium
footprint TI_Symbol_SolderMask_Small
footprint TI_Symbol_Overlay_Medium
footprint TI_Symbol_Overlay_Small
footprint TI_Horizontal_SolderMask_Medium
text: PCB; LOGO

## SE2435L
designator U?
IC FEM 915MHZ ISM BAND; Manufacturer 1: Skyworks; Manufacturer Part Number 1: SE2435L; Value: SE2435L
footprint QFN50P400X400X85_HS-25N (QFN, 24-Leads, Body 4.00x4.00mm, Pitch 0.50mm, Thermal Pad 2.70x2.70mm, IPC Medium Density)
pins: 1 CSD (in), 2 PA_IN (in), 3 CPS (in), 4 CTX (in), 5 TX_FLT, 6 TR (io), 7 ANT_SEL (in), 8 GND (power), 9 LNA_IN (in), 10 N/C, 11 RX_FLT (in), 12 ANT2 (io), 13 N/C, 14 ANT1 (io), 15 N/C, 16 TX_IN (in), 17 N/C, 18 N/C, 19 N/C, 20 PA_OUT (out), 21 VCC2 (power), 22 N/C, 23 VCC0 (power), 24 VCC1 (power), 25 GND (power)

## SF14-1575F5UUC1
designator FL?
FILTER SAW 1.57542GHZ SMD; Manufacturer 1: Kyocera; Part Type: SAW Filter; Manufacturer Part Number 1: SF14-1575F5UUC1; Supplier 1: Digi-Key; Supplier Part Number 1: 495-1674-1-ND; Supplier 2: Mouser; Supplier Part Number 2: N/A; Value: SF14-1575F5UUC1
footprint DFN50P110X55-4N (DFN, 4-Leads, Body 1.40x1.10mm, Pitch 0.50mm, IPC Medium Density)
pins: 1 GND, 2 IN, 3 GND, 4 OUT, 5 GND

## SFM-107-02-S-D
designator J?
CONN RCPT 14POS 0.050 GOLD SMD; Manufacturer 1: Samtec; Value: SFM-107-02-S-D; Manufacturer Part Number 1: SFM-107-02-S-D; Part Type: Connector; Supplier 1: Newark; Supplier Part Number 1: 97P5203
footprint SFM-107-X2-XXX-D
pins: 1, 2, 3, 4, 5, 6, 7, 8, 9, 10, 11, 12, 13, 14
1 alternate drawing of the same symbol

## SHIELD
designator SH?
BOARD SHIELD 1.150X.850" 1PIECE; Manufacturer 1: Custom; Manufacturer Part Number 1: N/A; Value: SHIELD
footprint BMIS-210 (1.7" x 1.2" shield)
footprint SHIELD-1050X850 (1.050" x .850" shield)
pins: 1 GND

## SHIELD2
designator SH?, comment SHIELD
BOARD SHIELD 15MM X 29MM 1 PIECE; Manufacturer 1: Custom; Manufacturer Part Number 1: N/A; Value: SHIELD
footprint BMIS-210 (1.7" x 1.2" shield)
footprint SHIELD-20x29mm (29mm" x 20mm shield)
footprint SHIELD-15x29mm (29mm" x 15mm shield)
pins: 1 GND

## Si1442DH
designator Q?
MOSFET N-CH 20V 2.7A SC70-6; Manufacturer Part Number 1: Si1442DH-T1-E3; Manufacturer 1: Vishay; Value: Si1442DH
simulation model PMOS (MOSFET-P)
footprint SI1469DH
pins: 1 D, 3 G, 4 S

## SI1469DH
designator Q?
MOSFET P-CH 20V 2.7A SC70-6; Manufacturer Part Number 1: SI1469DH-T1-E3; Manufacturer 1: Vishay; Value: Si1469DH; Supplier 1: Digi-Key; Supplier Part Number 1: SI1469DH-T1-E3CT-ND; Supplier 2: Mouser; Supplier Part Number 2: 781-SI1469DH-T1-E3
simulation model PMOS (MOSFET-P)
footprint SI1469DH
pins: 1 D, 3 G, 4 S

## Si1922EDH
designator Q?
MOSFET N-CH 20V DUAL SOT-363; Manufacturer Part Number 1: Si1922EDH-T1-E3; Manufacturer 1: Vishay; Value: Si1922EDH; Supplier 1: Digi-Key; Supplier Part Number 1: SI1922EDH-T1-GE3CT-ND; Supplier 2: Mouser; Supplier Part Number 2: N/A
simulation model PMOS (MOSFET-P)
footprint SI1469DH
footprint SOT65P210X100-6N
pins: 1 S1, 2 G1, 3 D2, 4 S2, 5 G2, 6 D1

## SIT1533AI
designator X?, comment 32.768KHZ
OSCMEMS  XO 32.7680KHZ LVCMOS; Manufacturer Part Number 1: SIT1533AI-H4-DCC-32.768E; Manufacturer 1: SiTime; CMT Part Number: 100240; Value: 32.768KHZ; Supplier 1: Digi-Key; Supplier Part Number 1: 1473-1239-1-ND
footprint SIT1533 (SiTime 2.0 x 1.2 XO Package)
pins: 1 NC, 2 GND (power), 3 OUT (out), 4 VDD (power)

## SM280508-2
designator LS?
SPEAKER 25MM 3W MYLAR; Manufacturer 1: DB Unlimited; Manufacturer Part Number 1: SM280508-2; Value: SM280508-2; Supplier 1: Arrow
footprint 240326000057
footprint 240326000132 (Knowles COBRA speaker)
footprint HDR1X2 (Connector; Header; 2 Position)
pins: 1, 2

## SMA6F5.0A-M3/6A
designator D?  (value not drawn)
TVS DIODE 5V 13.4V DO221AC; Manufacturer 1: Vishay Semiconductor Diodes Division; CMT Part Number: 100260; Manufacturer Part Number 1: SMA6F5.0A-M3/6A; Value: SMA6F5.0A-M3/6A; Supplier 1: Digi-Key; Supplier Part Number 1: SMA6F5.0A-M3/6AGITR-ND
simulation model SKYDIODE (Diode)
signal-integrity model D Schottky
footprint DIOM4226X10N (Molded Diode, 2-Leads, Body 4.25x2.60mm, IPC Medium Density)
pins: 1 A, 2 K

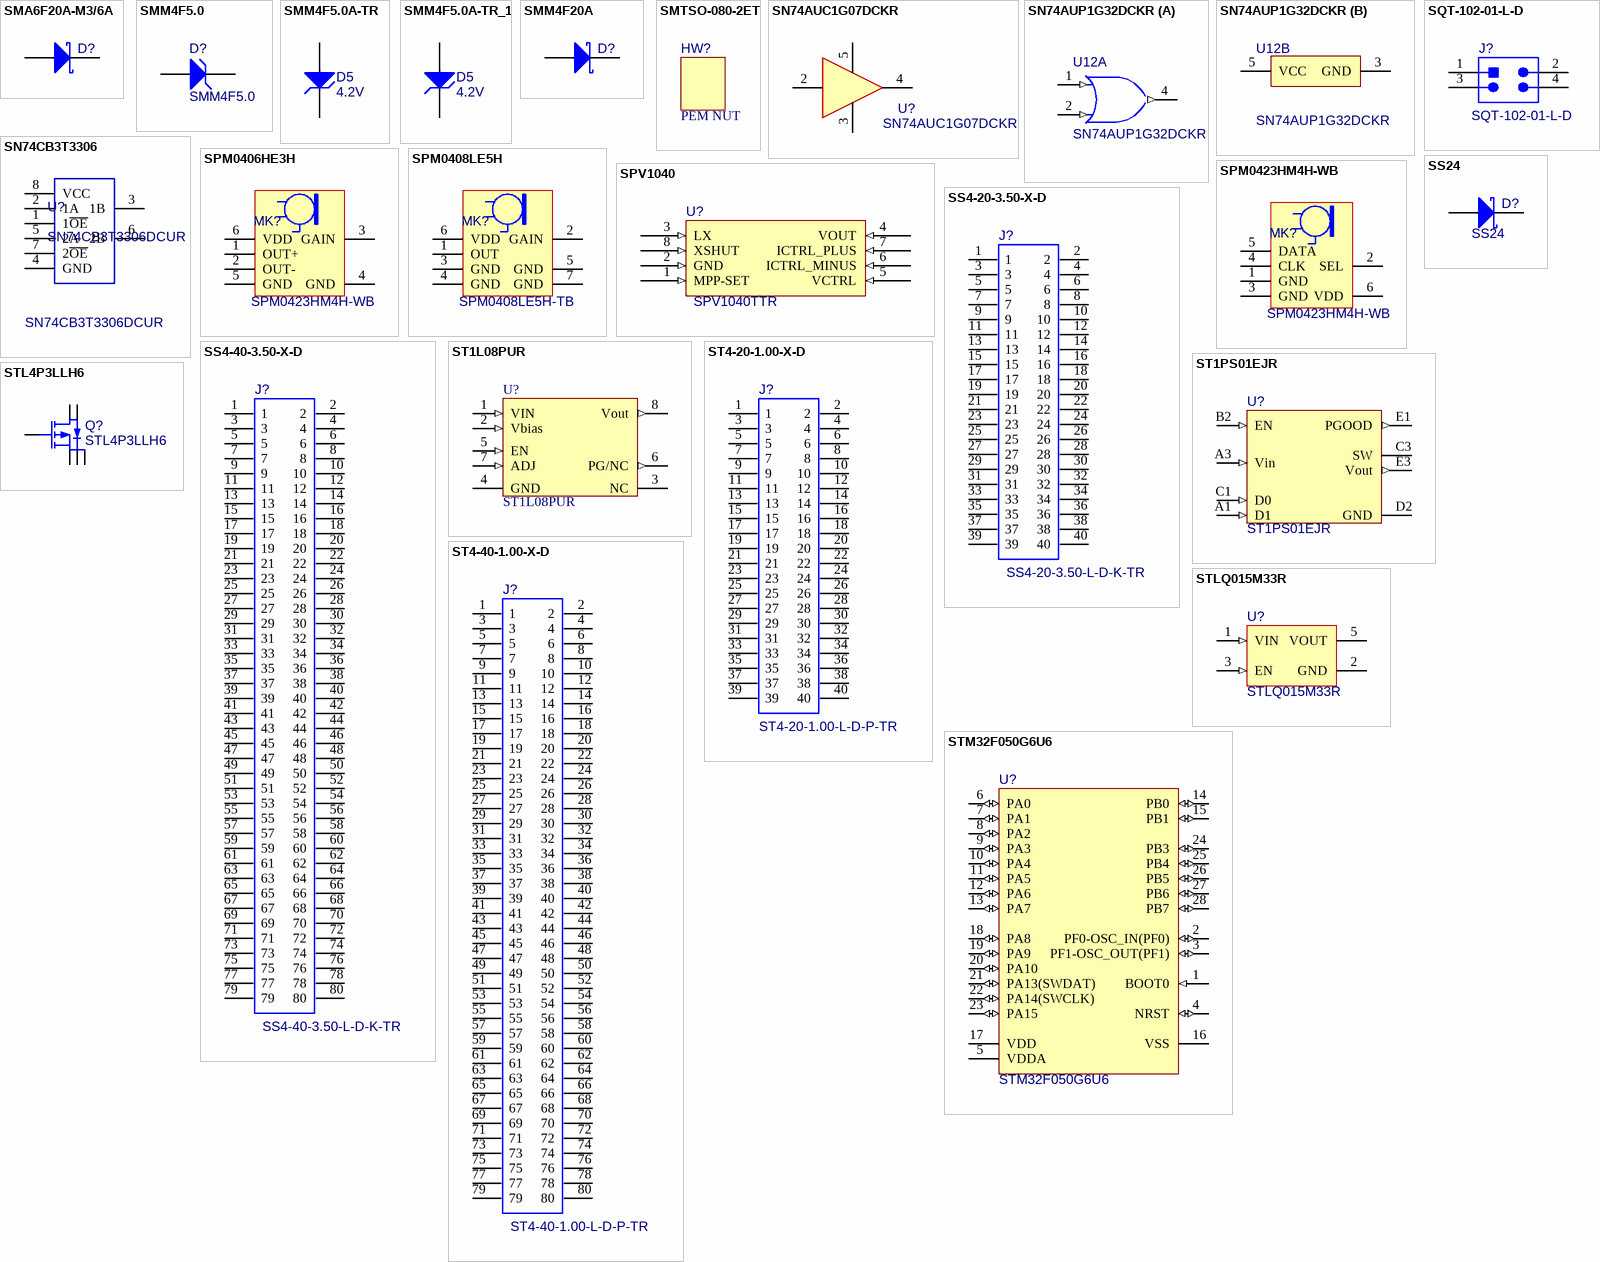
[diagram p15: symbols SMA6F20A-M3/6A to STM32F050G6U6]

## SMA6F20A-M3/6A
designator D?  (value not drawn)
TVS DIODE 20V 36.8V DO221AC; Manufacturer 1: Vishay Semiconductor Diodes Division; CMT Part Number: 100261; Manufacturer Part Number 1: SMA6F20A-M3/6A; Value: SMA6F20A-M3/6A; Supplier 1: Digi-Key; Supplier Part Number 1: SMA6F20A-M3/6AGICT-ND
simulation model SKYDIODE (Diode)
signal-integrity model D Schottky
footprint DIOM4226X10N (Molded Diode, 2-Leads, Body 4.25x2.60mm, IPC Medium Density)
pins: 1 A, 2 K

## SMM4F5.0
designator D?
5V TVS Diode; Manufacturer 1: STMicroelectronics; Manufacturer Part Number 1: SMM4F5.0A-TR; Value: 5V TVS; Supplier 1: Digi-Key; Supplier Part Number 1: 497-15660-1-ND
simulation model ZENER (Diode)
signal-integrity model D Zener
footprint DO222-AA
pins: 1 A, 2 K

## SMM4F5.0A-TR
designator D5, comment 4.2V
TVS DIODE 5V 13.4V DO222-AA; Manufacturer 1: STMicroelectronics; Manufacturer Part Number 1: SMM4F5.0A-TR; CMT Part Number: 100164; Direction: Unidirectional; Peak Pulse Power: 400W; Peak Pulse Current: 174A; Test Current: 10mA; Element Configuration: Single; Reverse Breakdown Voltage: 6.46V; Leakage Current: 10uA; LatestRevisionDate: 17-Jul-2002; Supplier 1: Digi-Key; Supplier Part Number 1: 497-15660-2-ND; Mount: Surface Mount; Clamping Voltage: 13.4V; Reverse Standoff Voltage: 5V; Operating Supply Voltage: 5V; Polarity: Unidirectional; Breakdown Voltage: 6.46V; Termination: SMD/SMT; Composition: Zener; ComponentLink1URL: http://www.mouser.com/ds/2/389/CD00178940-251527.pdf; ComponentLink1Description: http://www.mouser.com/ds/2/389/CD00178940-251527.pdf; ComponentLink2URL: http://www.st.com/web/en/resource/technical/document/datasheet/CD00178940.pdf; ComponentLink2Description: http://www.st.com/web/en/resource/technical/document/datasheet/CD00178940.pdf; Value: 4.2V
simulation model ZENER (Diode)
signal-integrity model D Zener
footprint STMite (STmite Flat package)
pins: 1 A, 2 K

## SMM4F5.0A-TR_1
designator D5, comment 4.2V
TVS DIODE 5V 13.4V DO222-AA; Manufacturer 1: STMicroelectronics; Manufacturer Part Number 1: SMM4F5.0A-TR; CMT Part Number: 100164; Direction: Unidirectional; Peak Pulse Power: 400W; Peak Pulse Current: 174A; Test Current: 10mA; Element Configuration: Single; Reverse Breakdown Voltage: 6.46V; Leakage Current: 10uA; LatestRevisionDate: 17-Jul-2002; Supplier 1: Digi-Key; Supplier Part Number 1: 497-15660-2-ND; Mount: Surface Mount; Clamping Voltage: 13.4V; Reverse Standoff Voltage: 5V; Operating Supply Voltage: 5V; Polarity: Unidirectional; Breakdown Voltage: 6.46V; Termination: SMD/SMT; Composition: Zener; ComponentLink1URL: http://www.mouser.com/ds/2/389/CD00178940-251527.pdf; ComponentLink1Description: http://www.mouser.com/ds/2/389/CD00178940-251527.pdf; ComponentLink2URL: http://www.st.com/web/en/resource/technical/document/datasheet/CD00178940.pdf; ComponentLink2Description: http://www.st.com/web/en/resource/technical/document/datasheet/CD00178940.pdf; Value: 4.2V
simulation model ZENER (Diode)
signal-integrity model D Zener
footprint STMite (STmite Flat package)
pins: 1 A, 2 K

## SMM4F20A
designator D?, comment SMM4F  (value not drawn)
TVS DIODE 20V 42.8V DO222-AA; Manufacturer 1: ST Microelectronics; Manufacturer Part Number 1: SMM4F20A; CMT Part Number: 100162; Value: SMM4F; Supplier 1: Digi-Key; Supplier Part Number 1: 497-7906-2-ND
simulation model SKYDIODE (Diode)
signal-integrity model D Schottky
footprint STMite (STmite Flat package)
pins: 1 K, 2 A

## SMTSO-080-2ET
designator HW?, comment PEM NUT
MICROPEM NUT STANDOFF; Manufacturer 1: PennEngineering; Manufacturer Part Number 1: SMTSO-080-2ET; Value: SMTSO-080-2ET; Supplier 1: D. B. Roberts Company; Supplier Part Number 1: SMTSO-080-2ET
footprint SMTSO-080-2ET (PEM nut)

## SN74AUC1G07DCKR
designator U?
IC BUFF/DVR NON-INVERT SC705; Manufacturer1: Texas Instruments; Manufacturer Part Number1: SN74AUC1G07DCKR; Value: SN74AUC1G07DCKR; Part Type: IC; Supplier 1: Digi-Key; Supplier Part Number 1: 296-12464-1-ND
footprint SOT65P210X110-5N (SOT23, 5-Leads, Body 2.00x2.10mm, Pitch 0.65mm, IPC Medium Density)
pins: 2 A, 3 GND, 4 Y, 5 VCC

## SN74AUP1G32DCKR
designator U12
IC GATE OR 1CH 2-INP SC-70-5; Manufacturer 1: Texas Instruments; Supplier 1: Mouser; Supplier Part Number 1: 595-SN74AUP1G32DCKR; Supplier 2: Digi-Key; Supplier Part Number 2: 296-18714-2-ND; Supplier 3: Digi-Key; Supplier Part Number 3: 296-18714-1-ND; Supplier 4: Digi-Key; Supplier Part Number 4: 296-18714-6-ND; Manufacturer Part Number 1: SN74AUP1G32DCKR; ComponentLink1Description: Manufacturer URL; ComponentLink1URL: http://www.ti.com/; ComponentLink2Description: Datasheet; ComponentLink2URL: http://www.ti.com/lit/ds/symlink/sn74aup1g32.pdf; Value: SN74AUP1G32DCKR
footprint DCK0005A_N (SOT23, 5-Leads, Body 2.15x1.4mm, Pitch 0.65mm, IPC Medium Density)
footprint DCK0005A_M (SOT23, 5-Leads, Body 2.15x1.4mm, Pitch 0.65mm, IPC Low Density)
footprint DCK0005A_L (SOT23, 5-Leads, Body 2.15x1.4mm, Pitch 0.65mm, IPC High Density)
part A pins: 1 A (in) "Input A", 2 B (in) "Input B", 4 Y (out) "Output Y"
part B pins: 3 GND (power) "Ground Pin", 5 VCC (power) "Power Pin"

## SN74CB3T3306
designator U?, comment SN74CB3T3306DCUR
IC 3.3V DUAL FET BUSSWTCH US8; Manufacturer 1: Texas Instruments; Manufacturer Part Number 1: SN74CB3T3306DCUR; Part Type: IC; Supplier 1: Digi-Key; Supplier Part Number 1: 296-15554-1-ND; Supplier 2: Mouser; Supplier Part Number 2: 595-SN74CB3T3306DCUR; Value: SN74CB3T3306DCUR
footprint TSSOP50P310X90-8N (TSSOP, 8-Leads, Body 2.00x2.30mm, Pitch 0.50mm, IPC Medium Density)
pins: 1 1~{OE}, 2 1A, 3 1B, 4 GND, 5 2A, 6 2B, 7 2~{OE}, 8 VCC

## SPM0406HE3H
designator MK?, comment SPM0423HM4H-WB
MIC SISONIC MINI TOP RF; Manufacturer 1: Knowles Acoustic; Manufacturer Part Number 1: SPM0406HE3H-SB; Part Type: Microphone; Supplier 1: Digi-Key; Supplier Part Number 1: 423-1128-1-ND; Supplier 2: Mouser; Supplier Part Number 2: 721-SPM0406HE3H-SB; Value: SPM0423HM4H-WB
footprint SPM0406HE3H
pins: 1 OUT+ (power), 2 OUT-, 3 GAIN, 4 GND, 5 GND, 6 VDD

## SPM0408LE5H
designator MK?, comment SPM0408LE5H-TB
MIC MEMS ANALOG OMNI -18DB; Manufacturer 1: Knowles Acoustic; Manufacturer Part Number 1: SPM0408LE5H-TB; Part Type: Microphone; Supplier 1: Digi-Key; Supplier Part Number 1: 423-1129-1-ND; Supplier 2: Mouser; Supplier Part Number 2: 721-SPM0408LE5H-TB; Value: SPM0408LE5H-TB
footprint SPM0408LE5H
pins: 1 OUT (power), 2 GAIN, 3 GND, 4 GND, 5 GND, 6 VDD, 7 GND

## SPM0423HM4H-WB
designator MK?
MIC SISONIC MINI TOP RF; Manufacturer 1: Knowles Acoustic; Manufacturer Part Number 1: SPM0423HM4H-WB; Part Type: Microphone; Supplier 1: Digi-Key; Supplier Part Number 1: 423-1163-1-ND; Supplier 2: Mouser; Supplier Part Number 2: 721-SPM0423HM4H-WB; Value: SPM0423HM4H-WB
footprint SPM0423HM4H
pins: 1 GND, 2 SEL, 3 GND, 4 CLK, 5 DATA (power), 6 VDD

## SPV1040
designator U?, comment SPV1040TTR
IC SOLAR BATTERY CHARGER 8TSSOP; Manufacturer 1: ST Microelectronics; CMT Part Number: 100221; Value: SPV1040TTR; Manufacturer Part Number 1: SPV1040TTR; Supplier 1: Digi-Key; Supplier Part Number 1: 497-11288-1-ND; Supplier 2: Mouser; Supplier Part Number 2: 511-SPV1040TTR
footprint TSOP65P640X120-8N (TSOP, 8-Leads, Body 3.00x4.40mm, Pitch 0.65mm, IPC Medium Density)
pins: 1 MPP-SET (in), 2 GND (in), 3 LX (in), 4 VOUT (in), 5 VCTRL (in), 6 ICTRL_MINUS (in), 7 ICTRL_PLUS (in), 8 XSHUT (in)

## SQT-102-01-L-D
designator J?
CONN RCPT 2MM 4POS DL GOLD R/A; Manufacturer 1: Samtec; Manufacturer Part Number 1: SQT-102-01-L-D; Value: SQT-102-01-L-D; Part Type: Connector; Supplier 1: Digikey; Supplier Part Number 1: SAM1245-02-ND
footprint HDR2X5 (Connector; Header; 5x2 Position)
signal-integrity model Connector
footprint SQT-110-XX-XXX-D
pins: 1, 2, 3, 4

## SS4-20-3.50-X-D
designator J?, comment SS4-20-3.50-L-D-K-TR
CONN 0.4MM TERMINAL STRIP ASSEMBLY 40PINS; Manufacturer 1: Samtec; Value: SS4-20-3.50-L-D-K-TR; Manufacturer Part Number 1: SS4-20-3.50-L-D-K-TR
footprint SS4-20-X.XX-X-D
pins: 1, 2, 3, 4, 5, 6, 7, 8, 9, 10, 11, 12, 13, 14, 15, 16, 17, 18, 19, 20, 21, 22, 23, 24, 25, 26, 27, 28, 29, 30, 31, 32, 33, 34, 35, 36, 37, 38, 39, 40

## SS4-40-3.50-X-D
designator J?, comment SS4-40-3.50-L-D-K-TR
CONN 0.4MM TERMINAL STRIP ASSEMBLY 80PINS; Manufacturer 1: Samtec; Value: SS4-40-3.50-L-D-K-TR; Manufacturer Part Number 1: SS4-40-3.50-L-D-K-TR
footprint SS4-40-3.00-X-D
pins: 1, 2, 3, 4, 5, 6, 7, 8, 9, 10, 11, 12, 13, 14, 15, 16, 17, 18, 19, 20, 21, 22, 23, 24, 25, 26, 27, 28, 29, 30, 31, 32, 33, 34, 35, 36, 37, 38, 39, 40, 41, 42, 43, 44, 45, 46, 47, 48, 49, 50, 51, 52, 53, 54, 55, 56, 57, 58, 59, 60, 61, 62, 63, 64, 65, 66, 67, 68, 69, 70, 71, 72, 73, 74, 75, 76, 77, 78, 79, 80

## SS24
designator D?
DIODE SCHOTTKY 40V 2A SMB; Manufacturer 1: Fairchild; Manufacturer Part Number 1: SS24; Value: SS24; Supplier 1: Digi-Key; Supplier 2: Mouser; Supplier 3: Newark; Supplier Part Number 1: SS24FSCT-ND; Supplier Part Number 2: 512-SS24; Supplier Part Number 3: 58K2382
footprint SMB (DO-214-AA/SMB; 2 C-Bend Leads; Body 5.3 x 3.6 mm, inc. leads (LxW))
simulation model SKYDIODE (Diode)
signal-integrity model D Schottky
footprint SMA
pins: 1 A, 2 K

## ST1L08PUR
designator U?
IC REG LINEAR POS ADJ 800MA 8DFN; Manufacturer 1: STMicroelectronics; Supplier 1: Digi-Key; Max Output Current: 800mA; Manufacturer Part Number 1: ST1L08PUR; Supplier Part Number 1: 497-15223-6-ND
footprint PSON127P600-8N
pins: 1 VIN (in), 2 Vbias (in), 3 NC, 4 GND, 5 EN (in), 6 PG/NC (out), 7 ADJ (in), 8 Vout (out)

## ST1PS01EJR
designator U?
400MA NANO-QUIESCENT SYNCHRONOUS; Manufacturer 1: STMicroelectronics; CMT Part Number: 100262; Supplier 1: Digi-Key; Manufacturer Part Number 1: ST1PS01EJR; Supplier Part Number 1: 497-18334-2-ND; Value: ST1PS01EJR
footprint ST_FLIP-CHIP8 (BGA, 8-Leads, Body 1.11x1.41mmx0.60mm, Pitch 0.31mm)
pins: A1 D1 (in), A3 Vin (in), B2 EN (in), C1 D0 (in), C3 SW, D2 GND, E1 PGOOD (out), E3 Vout (out)

## ST4-20-1.00-X-D
designator J?, comment ST4-20-1.00-L-D-P-TR
CONN 0.4MM TERMINAL STRIP ASSEMBLY 40PINS; Manufacturer 1: Samtec; Value: ST4-20-1.00-L-D-P-TR; Manufacturer Part Number 1: ST4-20-1.00-L-D-P-TR
footprint ST4-20-1.00-X-D (Samtec ST4 Series Connector 20 pins per row)
pins: 1, 2, 3, 4, 5, 6, 7, 8, 9, 10, 11, 12, 13, 14, 15, 16, 17, 18, 19, 20, 21, 22, 23, 24, 25, 26, 27, 28, 29, 30, 31, 32, 33, 34, 35, 36, 37, 38, 39, 40

## ST4-40-1.00-X-D
designator J?, comment ST4-40-1.00-L-D-P-TR
CONN 0.4MM TERMINAL STRIP ASSEMBLY 80PINS; Manufacturer 1: Samtec; Value: ST4-40-1.00-L-D-P-TR; Manufacturer Part Number 1: ST4-40-1.00-L-D-P-TR
footprint ST4-40-1.00-X-D (Samtec ST4 Series Connector 40 pins per row)
pins: 1, 2, 3, 4, 5, 6, 7, 8, 9, 10, 11, 12, 13, 14, 15, 16, 17, 18, 19, 20, 21, 22, 23, 24, 25, 26, 27, 28, 29, 30, 31, 32, 33, 34, 35, 36, 37, 38, 39, 40, 41, 42, 43, 44, 45, 46, 47, 48, 49, 50, 51, 52, 53, 54, 55, 56, 57, 58, 59, 60, 61, 62, 63, 64, 65, 66, 67, 68, 69, 70, 71, 72, 73, 74, 75, 76, 77, 78, 79, 80

## STL4P3LLH6
designator Q?
MOSFET P-CH 30V 4A POWERFLAT; Manufacturer 1: Vishay; CMT Part Number: 100185; Manufacturer Part Number 1: STL4P3LLH6; Value: STL4P3LLH6; Supplier 1: Digi-Key; Supplier Part Number 1: 497-15510-1-ND; Supplier 2: Avnet Europe; Supplier Part Number 2: STL4P3LLH6
simulation model PMOS (MOSFET-P)
footprint POWERFLAT-2X2
pins: 1 D, 2 D, 3 G, 4 S, 5 S, 5 S

## STLQ015M33R
designator U?
IC REG LINEAR 3.3V 150MA SOT23-5; Manufacturer 1: ST Microelectronics; CMT Part Number: 100255; Part Type: IC; Manufacturer Part Number 1: STLQ015M33R; Supplier 1: Mouser; Supplier Part Number 1: 511-STLQ015M33R; Supplier 2: Digi-Key; Supplier Part Number 2: 497-15934-1-ND; Value: STLQ015M33R
footprint SOT95P280X145-5N (SOT23, 5-Leads, Body 2.98x2.80mm, Pitch 0.95mm, IPC Medium Density)
pins: 1 VIN (in), 2 GND, 3 EN (in), 5 VOUT (power)

## STM32F050G6U6
designator U?
IC MCU 32BIT 32KB FLASH 28UFQFN; Manufacturer 1: ST Microelectronics; Manufacturer Part Number 1: STM32F050G6U6; Value: STM32F050G6U6; Supplier 1: Digi-Key; Supplier Part Number 1: 497-13620-ND; Supplier 2: Mouser; Supplier Part Number 2: 511-STM32F050G6U6
footprint STM-UFQFPN28_V (QFN, 28-Leads, Body 4.1x4.1mm, Pitch 0.5mm)
pins: 1 BOOT0 (in) "Boot memory selection", 2 PF0-OSC_IN(PF0) (io) "PF0-OSC_IN(PF0)/OSC_IN", 3 PF1-OSC_OUT(PF1) (io) "PF1-OSC_OUT(PF1)/OSC_OUT", 4 NRST (io) "Device reset input / internal reset output (active low)", 5 VDDA (power) "Analog power supply", 6 PA0 (io) "PA0/TIM2_CH1_ETR,USART1_CTS/ADC_IN0,RTC_TAMP2,WKUP1", 7 PA1 (io) "PA1/TIM2_CH2,EVENTOUT,USART1_RTS/ADC_IN1", 8 PA2 (io) "PA2/TIM2_CH3,USART1_TX/ADC_IN2", 9 PA3 (io) "PA3/TIM2_CH4,USART1_RX/ADC_IN3", 10 PA4 (io) "PA4/SPI1_NSS,I2S1_WS,TIM14_CH1,USART1_CK/ADC_IN4", 11 PA5 (io) "PA5/SPI1_SCK,I2S1_CK,TIM2_CH1_ETR/ADC_IN5", 12 PA6 (io) "PA6/SPI1_MISO,I2S1_MCK,TIM3_CH1,TIM1_BKIN,TIM16_CH1,EVENTOUT/ADC_IN6", 13 PA7 (io) "PA7/SPI1_MOSI,I2S1_SD,TIM3_CH2,TIM14_CH1,TIM1_CH1N,TIM17_CH1,EVENTOUT/ADC_IN7", 14 PB0 (io) "PB0/TIM3_CH3,TIM1_CH2N,EVENTOUT/ADC_IN8", 15 PB1 (io) "PB1/TIM3_CH4,TIM14_CH1,TIM1_CH3N/ADC_IN9", 16 VSS (power) "Ground", 17 VDD (power) "Digital power supply", 18 PA8 (io) "PA8/USART1_CK,TIM1_CH1,EVENTOUT,MCO", 19 PA9 (io) "PA9/USART1_TX,TIM1_CH2,I2C1_SCL", 20 PA10 (io) "PA10/USART1_RX,TIM1_CH3,TIM17_BKIN,I2C1_SDA", 21 PA13(SWDAT) (io) "PA13(SWDAT)/IR_OUT,SWDAT", 22 PA14(SWCLK) (io) "PA14(SWCLK)/SWCLK,USART1_TX", 23 PA15 (io) "PA15/SPI1_NSS,I2S1_WS,TIM2_CH_ETR,EVENTOUT,USART1_RX", 24 PB3 (io) "PB3/SPI1_SCK,I2S1_CK,TIM2_CH2,EVENTOUT", 25 PB4 (io) "PB4/SPI1_MISO,I2S1_MCK,TIM3_CH1,EVENTOUT", 26 PB5 (io) "PB5/SPI1_MOSI,I2S1_SD,I2C1_SMBA,TIM16_BKIN,TIM3_CH2", 27 PB6 (io) "PB6/I2C1_SCL,USART1_TX,TIM16_CH1N", 28 PB7 (io) "PB7/I2C1_SDA,USART1_RX,TIM17_CH1N"

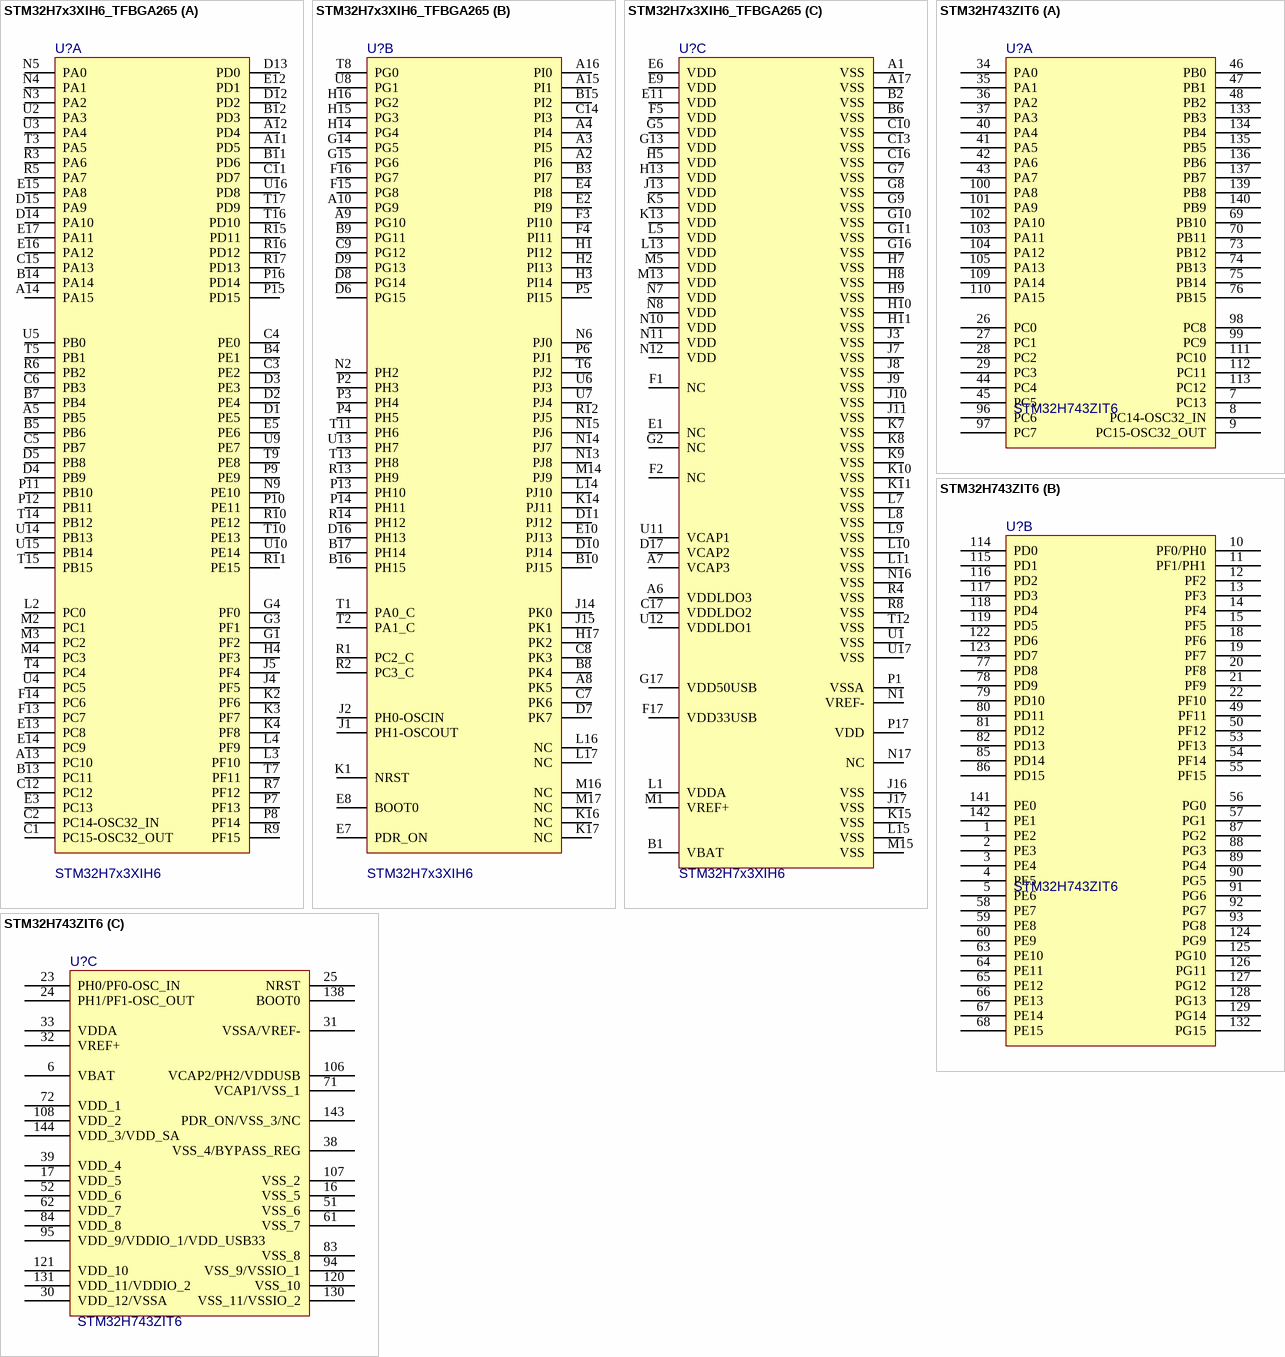
[diagram p16: symbols STM32H7x3XIH6_TFBGA265 to STM32H743ZIT6]

## STM32H7x3XIH6_TFBGA265
designator U?, comment STM32H7x3XIH6
IC HIGH-PERFORMANCE & DSP DP-FPU AR
footprint BGA265_0R8_14X14 (Footprint not found)
footprint BGA265_0R8_14X14_SKT (Footprint not found)
part A pins: A5 PB5, A11 PD5, A12 PD4, A13 PC10, A14 PA15, B4 PE1, B5 PB6, B7 PB4, B11 PD6, B12 PD3, B13 PC11, B14 PA14, C1 PC15-OSC32_OUT, C2 PC14-OSC32_IN, C3 PE2, C4 PE0, C5 PB7, C6 PB3, C11 PD7, C12 PC12, C15 PA13, D1 PE5, D2 PE4, D3 PE3, D4 PB9, D5 PB8, D12 PD2, D13 PD0, D14 PA10, D15 PA9, E3 PC13, E5 PE6, E12 PD1, E13 PC8, E14 PC9, E15 PA8, E16 PA12, E17 PA11, F13 PC7, F14 PC6, G1 PF2, G3 PF1, G4 PF0, H4 PF3, J4 PF5, J5 PF4, K2 PF6, K3 PF7, K4 PF8, L2 PC0, L3 PF10, L4 PF9, M2 PC1, M3 PC2, M4 PC3, N3 PA2, N4 PA1, N5 PA0, N9 PE10, P7 PF13, P8 PF14, P9 PE9, P10 PE11, P11 PB10, P12 PB11, P15 PD15, P16 PD14, R3 PA6, R5 PA7, R6 PB2, R7 PF12, R9 PF15, R10 PE12, R11 PE15, R15 PD11, R16 PD12, R17 PD13, T3 PA5, T4 PC4, T5 PB1, T7 PF11, T9 PE8, T10 PE13, T14 PB12, T15 PB15, T16 PD10, T17 PD9, U2 PA3, U3 PA4, U4 PC5, U5 PB0, U9 PE7, U10 PE14, U14 PB13, U15 PB14, U16 PD8
part B pins: A2 PI6, A3 PI5, A4 PI4, A8 PK5, A9 PG10, A10 PG9, A15 PI1, A16 PI0, B3 PI7, B8 PK4, B9 PG11, B10 PJ15, B15 PI2, B16 PH15, B17 PH14, C7 PK6, C8 PK3, C9 PG12, C14 PI3, D6 PG15, D7 PK7, D8 PG14, D9 PG13, D10 PJ14, D11 PJ12, D16 PH13, E2 PI9, E4 PI8, E7 PDR_ON, E8 BOOT0, E10 PJ13, F3 PI10, F4 PI11, F15 PG8, F16 PG7, G14 PG5, G15 PG6, H1 PI12, H2 PI13, H3 PI14, H14 PG4, H15 PG3, H16 PG2, H17 PK2, J1 PH1-OSCOUT, J2 PH0-OSCIN, J14 PK0, J15 PK1, K1 NRST, K14 PJ11, K16 NC, K17 NC, L14 PJ10, L16 NC, L17 NC, M14 PJ9, M16 NC, M17 NC, N2 PH2, N6 PJ0, N13 PJ8, N14 PJ7, N15 PJ6, P2 PH3, P3 PH4, P4 PH5, P5 PI15, P6 PJ1, P13 PH10, P14 PH11, R1 PC2_C, R2 PC3_C, R12 PJ5, R13 PH9, R14 PH12, T1 PA0_C, T2 PA1_C, T6 PJ2, T8 PG0, T11 PH6, T13 PH8, U6 PJ3, U7 PJ4, U8 PG1, U13 PH7
part C pins: A1 VSS, A6 VDDLDO3, A7 VCAP3, A17 VSS, B1 VBAT, B2 VSS, B6 VSS, C10 VSS, C13 VSS, C16 VSS, C17 VDDLDO2, D17 VCAP2, E1 NC, E6 VDD, E9 VDD, E11 VDD, F1 NC, F2 NC, F5 VDD, F17 VDD33USB, G2 NC, G5 VDD, G7 VSS, G8 VSS, G9 VSS, G10 VSS, G11 VSS, G13 VDD, G16 VSS, G17 VDD50USB, H5 VDD, H7 VSS, H8 VSS, H9 VSS, H10 VSS, H11 VSS, H13 VDD, J3 VSS, J7 VSS, J8 VSS, J9 VSS, J10 VSS, J11 VSS, J13 VDD, J16 VSS, J17 VSS, K5 VDD, K7 VSS, K8 VSS, K9 VSS, K10 VSS, K11 VSS, K13 VDD, K15 VSS, L1 VDDA, L5 VDD, L7 VSS, L8 VSS, L9 VSS, L10 VSS, L11 VSS, L13 VDD, L15 VSS, M1 VREF+, M5 VDD, M13 VDD, M15 VSS, N1 VREF-, N7 VDD, N8 VDD, N10 VDD, N11 VDD, N12 VDD, N16 VSS, N17 NC, P1 VSSA, P17 VDD, R4 VSS, R8 VSS, T12 VSS, U1 VSS, U11 VCAP1, U12 VDDLDO1, U17 VSS
2 alternate drawings of the same symbol

## STM32H743ZIT6
designator U?
IC ULTRA-LOW-POWER WITH FPU ARM CORE, LQFP144; Manufacturer 1: ST Microelectronics; Value: STM32H743ZIT6; Manufacturer Part Number 1: STM32H743ZIT6; Supplier 1: Digi-Key; Supplier Part Number 1: 497-17721-ND; Supplier 2: Mouser; Supplier Part Number 2: 511-STM32H743ZIT6; Supplier 3: Newark; Supplier Part Number 3: 47AC1656
footprint TQFP144_M (Footprint not found)
footprint IC149-144-045-B5
footprint LQFP144 (Footprint not found)
footprint LQFP144_0R5_SKT (Footprint not found)
part A pins: 7 PC13, 8 PC14-OSC32_IN, 9 PC15-OSC32_OUT, 26 PC0, 27 PC1, 28 PC2, 29 PC3, 34 PA0, 35 PA1, 36 PA2, 37 PA3, 40 PA4, 41 PA5, 42 PA6, 43 PA7, 44 PC4, 45 PC5, 46 PB0, 47 PB1, 48 PB2, 69 PB10, 70 PB11, 73 PB12, 74 PB13, 75 PB14, 76 PB15, 96 PC6, 97 PC7, 98 PC8, 99 PC9, 100 PA8, 101 PA9, 102 PA10, 103 PA11, 104 PA12, 105 PA13, 109 PA14, 110 PA15, 111 PC10, 112 PC11, 113 PC12, 133 PB3, 134 PB4, 135 PB5, 136 PB6, 137 PB7, 139 PB8, 140 PB9
part B pins: 1 PE2, 2 PE3, 3 PE4, 4 PE5, 5 PE6, 10 PF0/PH0, 11 PF1/PH1, 12 PF2, 13 PF3, 14 PF4, 15 PF5, 18 PF6, 19 PF7, 20 PF8, 21 PF9, 22 PF10, 49 PF11, 50 PF12, 53 PF13, 54 PF14, 55 PF15, 56 PG0, 57 PG1, 58 PE7, 59 PE8, 60 PE9, 63 PE10, 64 PE11, 65 PE12, 66 PE13, 67 PE14, 68 PE15, 77 PD8, 78 PD9, 79 PD10, 80 PD11, 81 PD12, 82 PD13, 85 PD14, 86 PD15, 87 PG2, 88 PG3, 89 PG4, 90 PG5, 91 PG6, 92 PG7, 93 PG8, 114 PD0, 115 PD1, 116 PD2, 117 PD3, 118 PD4, 119 PD5, 122 PD6, 123 PD7, 124 PG9, 125 PG10, 126 PG11, 127 PG12, 128 PG13, 129 PG14, 132 PG15, 141 PE0, 142 PE1
part C pins: 6 VBAT, 16 VSS_5, 17 VDD_5, 23 PH0/PF0-OSC_IN, 24 PH1/PF1-OSC_OUT, 25 NRST, 30 VDD_12/VSSA, 31 VSSA/VREF-, 32 VREF+, 33 VDDA, 38 VSS_4/BYPASS_REG, 39 VDD_4, 51 VSS_6, 52 VDD_6, 61 VSS_7, 62 VDD_7, 71 VCAP1/VSS_1, 72 VDD_1, 83 VSS_8, 84 VDD_8, 94 VSS_9/VSSIO_1, 95 VDD_9/VDDIO_1/VDD_USB33, 106 VCAP2/PH2/VDDUSB, 107 VSS_2, 108 VDD_2, 120 VSS_10, 121 VDD_10, 130 VSS_11/VSSIO_2, 131 VDD_11/VDDIO_2, 138 BOOT0, 143 PDR_ON/VSS_3/NC, 144 VDD_3/VDD_SA

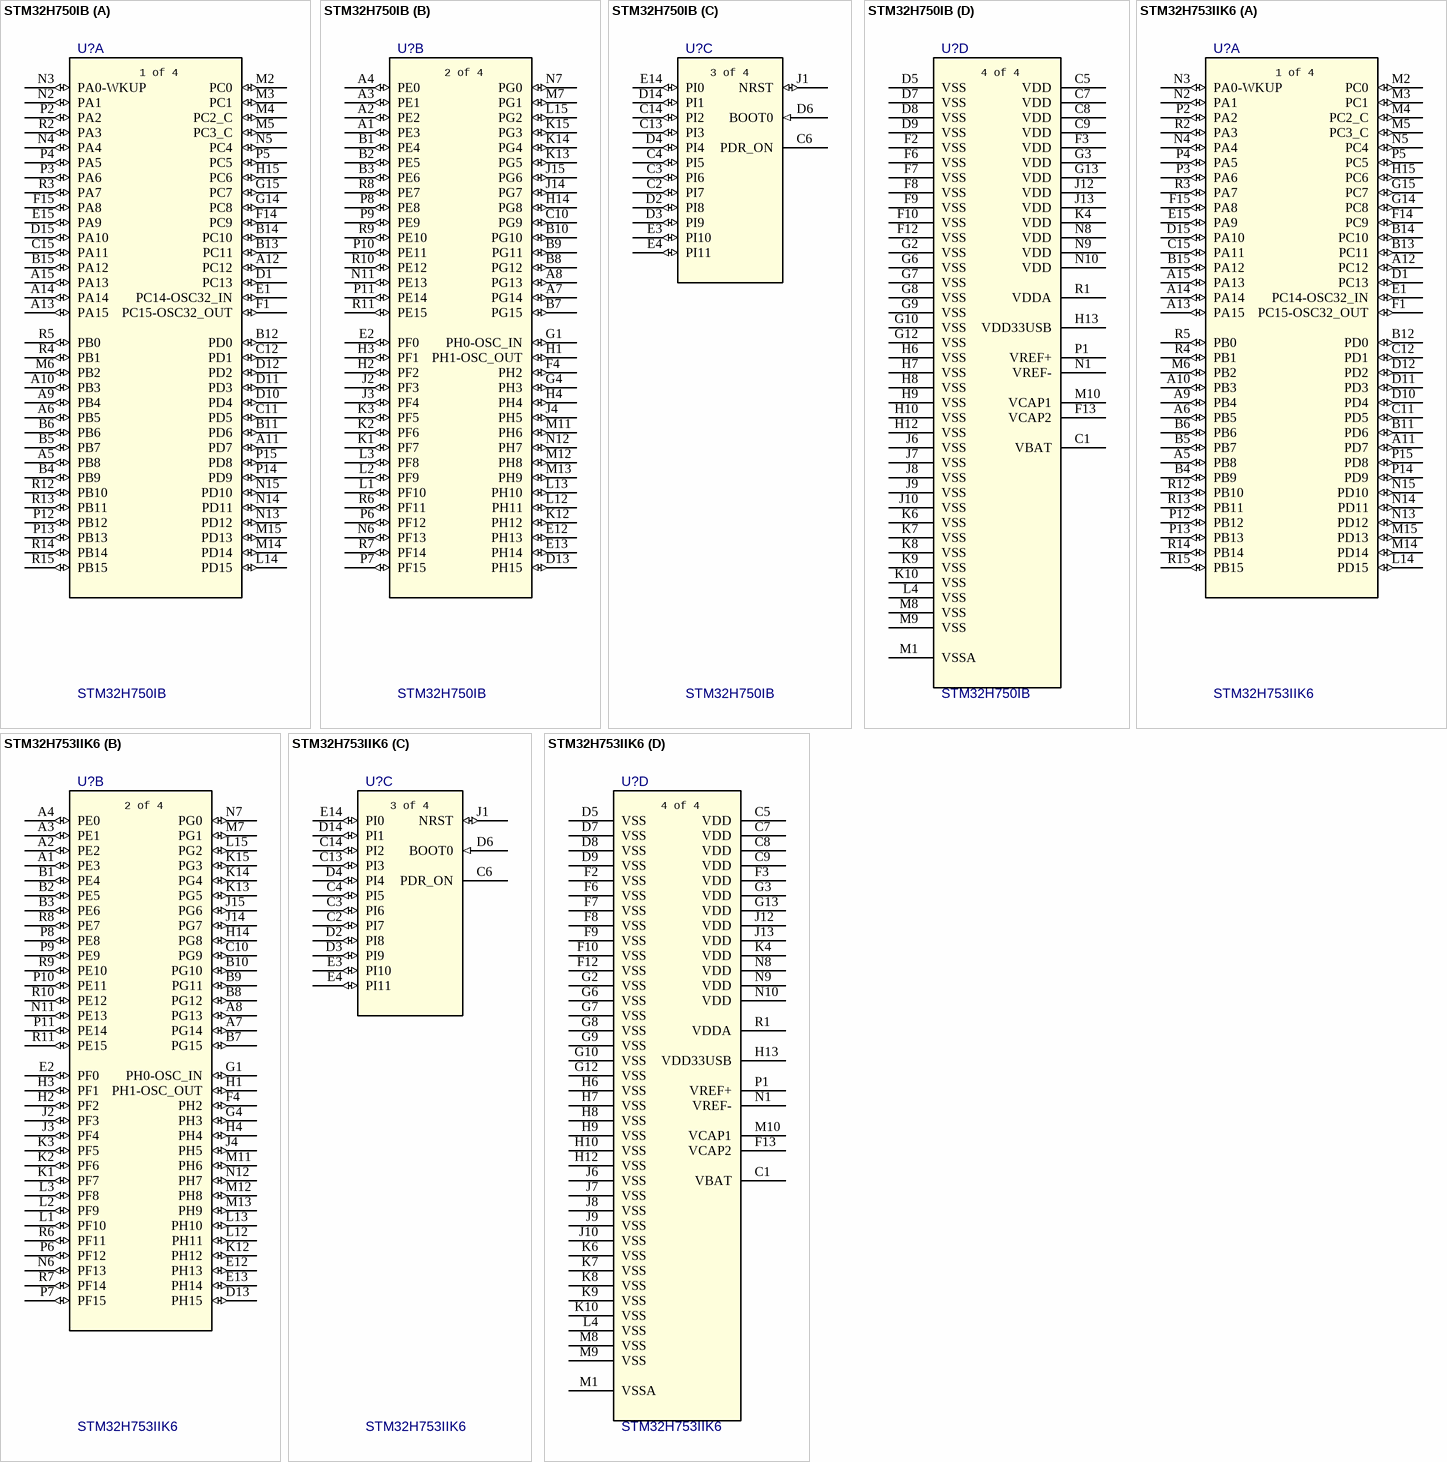
[diagram p17: symbols STM32H750IB to STM32H753IIK6]

## STM32H750IB
designator U?
IC ULTRA-LOW-POWER WITH FPU ARM CORE, BGA176; Manufacturer 1: ST Microelectronics; CMT Part Number: 100207; Value: STM32H750IB; Manufacturer Part Number 1: STM32H750IB; Supplier 1: Digi-Key; Supplier Part Number 1: 497-18109-ND
footprint UFBGA 10X10 P 0_
part A pins: A5 PB8 (io), A6 PB5 (io), A9 PB4 (io), A10 PB3 (io), A11 PD7 (io), A12 PC12 (io), A13 PA15 (io), A14 PA14 (io), A15 PA13 (io), B4 PB9 (io), B5 PB7 (io), B6 PB6 (io), B11 PD6 (io), B12 PD0 (io), B13 PC11 (io), B14 PC10 (io), B15 PA12 (io), C11 PD5 (io), C12 PD1 (io), C15 PA11 (io), D1 PC13 (io), D10 PD4 (io), D11 PD3 (io), D12 PD2 (io), D15 PA10 (io), E1 PC14-OSC32_IN (io), E15 PA9 (io), F1 PC15-OSC32_OUT (io), F14 PC9 (io), F15 PA8 (io), G14 PC8 (io), G15 PC7 (io), H15 PC6 (io), L14 PD15 (io), M2 PC0 (io), M3 PC1 (io), M4 PC2_C (io), M5 PC3_C (io), M6 PB2 (io), M14 PD14 (io), M15 PD13 (io), N2 PA1 (io), N3 PA0-WKUP (io), N4 PA4 (io), N5 PC4 (io), N13 PD12 (io), N14 PD11 (io), N15 PD10 (io), P2 PA2 (io), P3 PA6 (io), P4 PA5 (io), P5 PC5 (io), P12 PB12 (io), P13 PB13 (io), P14 PD9 (io), P15 PD8 (io), R2 PA3 (io), R3 PA7 (io), R4 PB1 (io), R5 PB0 (io), R12 PB10 (io), R13 PB11 (io), R14 PB14 (io), R15 PB15 (io)
part B pins: A1 PE3 (io), A2 PE2 (io), A3 PE1 (io), A4 PE0 (io), A7 PG14 (io), A8 PG13 (io), B1 PE4 (io), B2 PE5 (io), B3 PE6 (io), B7 PG15 (io), B8 PG12 (io), B9 PG11 (io), B10 PG10 (io), C10 PG9 (io), D13 PH15 (io), E2 PF0 (io), E12 PH13 (io), E13 PH14 (io), F4 PH2 (io), G1 PH0-OSC_IN (io), G4 PH3 (io), H1 PH1-OSC_OUT (io), H2 PF2 (io), H3 PF1 (io), H4 PH4 (io), H14 PG8 (io), J2 PF3 (io), J3 PF4 (io), J4 PH5 (io), J14 PG7 (io), J15 PG6 (io), K1 PF7 (io), K2 PF6 (io), K3 PF5 (io), K12 PH12 (io), K13 PG5 (io), K14 PG4 (io), K15 PG3 (io), L1 PF10 (io), L2 PF9 (io), L3 PF8 (io), L12 PH11 (io), L13 PH10 (io), L15 PG2 (io), M7 PG1 (io), M11 PH6 (io), M12 PH8 (io), M13 PH9 (io), N6 PF13 (io), N7 PG0 (io), N11 PE13 (io), N12 PH7 (io), P6 PF12 (io), P7 PF15 (io), P8 PE8 (io), P9 PE9 (io), P10 PE11 (io), P11 PE14 (io), R6 PF11 (io), R7 PF14 (io), R8 PE7 (io), R9 PE10 (io), R10 PE12 (io), R11 PE15 (io)
part C pins: C2 PI7 (io), C3 PI6 (io), C4 PI5 (io), C6 PDR_ON, C13 PI3 (io), C14 PI2 (io), D2 PI8 (io), D3 PI9 (io), D4 PI4 (io), D6 BOOT0 (in), D14 PI1 (io), E3 PI10 (io), E4 PI11 (io), E14 PI0 (io), J1 NRST (io)
part D pins: C1 VBAT (power), C5 VDD (power), C7 VDD (power), C8 VDD (power), C9 VDD (power), D5 VSS (power), D7 VSS (power), D8 VSS (power), D9 VSS (power), F2 VSS (power), F3 VDD (power), F6 VSS (power), F7 VSS (power), F8 VSS (power), F9 VSS (power), F10 VSS (power), F12 VSS (power), F13 VCAP2 (power), G2 VSS (power), G3 VDD (power), G6 VSS (power), G7 VSS (power), G8 VSS (power), G9 VSS (power), G10 VSS (power), G12 VSS (power), G13 VDD (power), H6 VSS (power), H7 VSS (power), H8 VSS (power), H9 VSS (power), H10 VSS (power), H12 VSS (power), H13 VDD33USB (power), J6 VSS (power), J7 VSS (power), J8 VSS (power), J9 VSS (power), J10 VSS (power), J12 VDD (power), J13 VDD (power), K4 VDD (power), K6 VSS (power), K7 VSS (power), K8 VSS (power), K9 VSS (power), K10 VSS (power), L4 VSS (power), M1 VSSA (power), M8 VSS (power), M9 VSS (power), M10 VCAP1 (power), N1 VREF- (power), N8 VDD (power), N9 VDD (power), N10 VDD (power), P1 VREF+ (power), R1 VDDA (power)
part A text: 1 of 4
part B text: 2 of 4
part C text: 3 of 4
part D text: 4 of 4